# Altium integrated library Altera APEX 20KE.IntLib: 235 symbols (part 19 of 49)
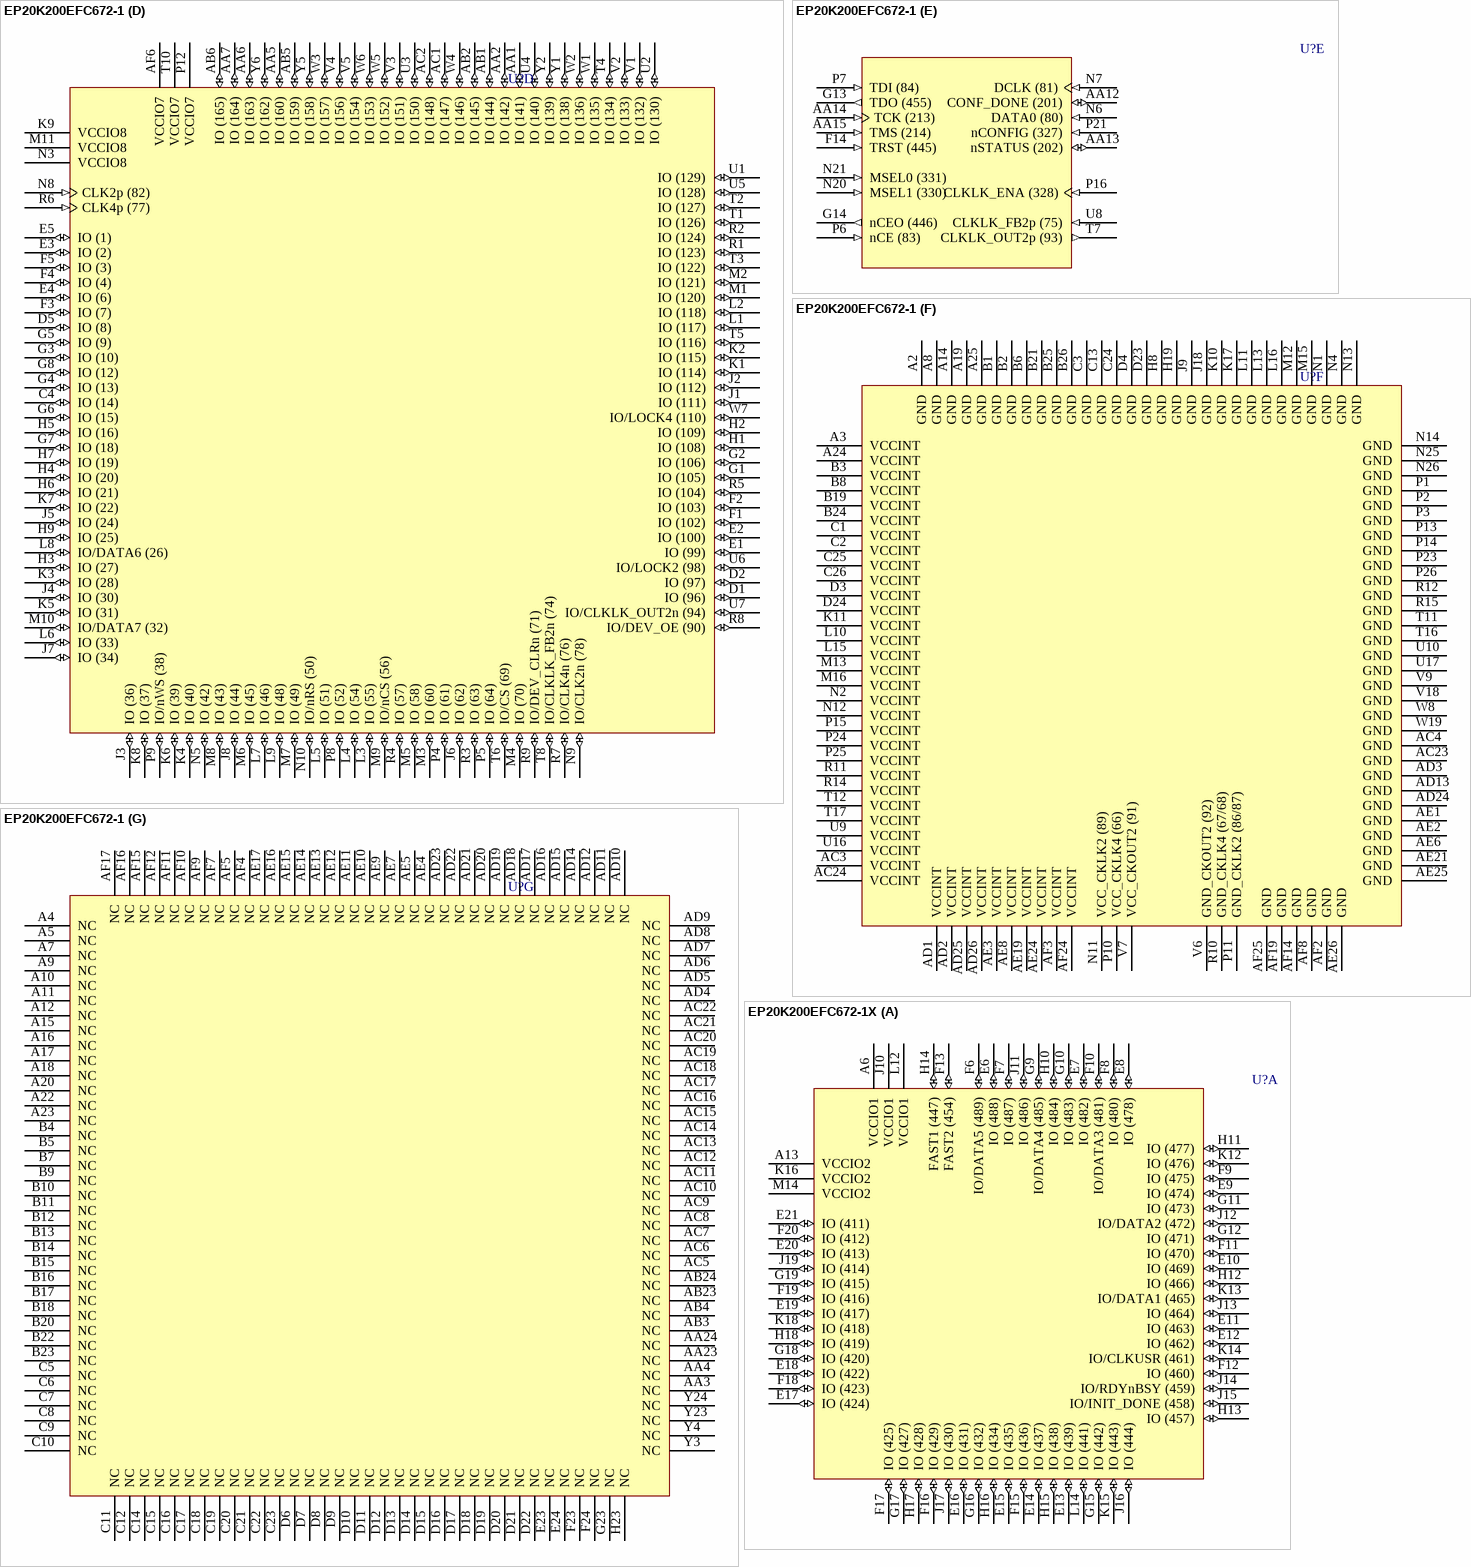
[diagram p417: symbols EP20K200EFC672-1 to EP20K200EFC672-1X]

## EP20K200EFC672-1
designator U?
APEX 20K200E PLD, 672-Pin FBGA, Commercial Grade, Speed Grade 1; Published: 17-Jul-2002; LatestRevisionDate: 13-Apr-2006; LatestRevisionNote: IPC-7351 Footprint Added.; DatasheetVersion: Mar-2004; PackageVersion: ver15.4, Dec-2008; PackageReference: FBGA672; Publisher: Altium Limited; PackageDescription: 672-Ball FineLine Ball Grid Array (FBGA672) - Flip Chip; Supplier 1: Digi-Key; Supplier Part Number 1: EP20K200EFC672-1-ND; Code_JEDEC: MS-034-AAL-1; ComponentLink1Description: Manufacturer Link; ComponentLink1URL: http://www.altera.com/products/devices/apex/apx-index.html; ComponentLink2Description: Datasheet; ComponentLink2URL: http://www.altera.com/literature/ds/apex.pdf
footprint FBGA672 (BGA, 672-Leads, Body 27x27mm, Pitch 1mm)
3D model EP20K200E-FBGA672 (672-Ball FineLine Ball Grid Array (FBGA672) - Flip Chip)
part A pins: A6 VCCIO1 (power), A13 VCCIO2 (power), E6 IO (488) (io), E7 IO (482) (io), E8 IO (478) (io), E9 IO (474) (io), E10 IO (469) (io), E11 IO (463) (io), E12 IO (462) (io), E13 IO (439) (io), E14 IO (437) (io), E15 IO (435) (io), E16 IO (431) (io), E17 IO (424) (io), E18 IO (422) (io), E19 IO (417) (io), E20 IO (413) (io), E21 IO (411) (io), F6 IO/DATA5 (489) (io), F7 IO (487) (io), F8 IO (480) (io), F9 IO (475) (io), F10 IO/DATA3 (481) (io), F11 IO (470) (io), F12 IO (460) (io), F13 FAST2 (454) (io), F15 IO (436) (io), F16 IO (429) (io), F17 IO (425) (io), F18 IO (423) (io), F19 IO (416) (io), F20 IO (412) (io), G9 IO/DATA4 (485) (io), G10 IO (483) (io), G11 IO (473) (io), G12 IO (471) (io), G15 IO (442) (io), G16 IO (432) (io), G17 IO (427) (io), G18 IO (420) (io), G19 IO (415) (io), H10 IO (484) (io), H11 IO (477) (io), H12 IO (466) (io), H13 IO (457) (io), H14 FAST1 (447) (io), H15 IO (438) (io), H16 IO (434) (io), H17 IO (428) (io), H18 IO (419) (io), J10 VCCIO1 (power), J11 IO (486) (io), J12 IO/DATA2 (472) (io), J13 IO (464) (io), J14 IO/RDYnBSY (459) (io), J15 IO/INIT_DONE (458) (io), J16 IO (444) (io), J17 IO (430) (io), J19 IO (414) (io), K12 IO (476) (io), K13 IO/DATA1 (465) (io), K14 IO/CLKUSR (461) (io), K15 IO (443) (io), K16 VCCIO2 (power), K18 IO (418) (io), L12 VCCIO1 (power), L14 IO (441) (io), M14 VCCIO2 (power)
part B pins: A21 VCCIO3 (power), AA21 IO (250) (io), AA22 IO (264) (io), AA25 IO (345) (io), AA26 IO (346) (io), AB21 IO (252) (io), AB22 IO (255) (io), AB25 IO (340) (io), AB26 IO (341) (io), AC25 IO (339) (io), AC26 IO (337) (io), AE18 IO (319) (io), AE20 IO (322) (io), AE22 IO (334) (io), AE23 IO (335) (io), AF18 IO (318) (io), AF20 IO (321) (io), AF22 IO (333) (io), AF23 IO (336) (io), D25 IO (390) (io), D26 IO (391) (io), E22 IO (408) (io), E25 IO (387) (io), E26 IO (388) (io), F21 IO (407) (io), F22 IO (405) (io), F25 IO (384) (io), F26 IO (385) (io), G20 IO (406) (io), G21 IO (402) (io), G22 IO (395) (io), G24 IO (400) (io), G25 IO (381) (io), G26 IO (382) (io), H20 IO (396) (io), H21 IO (401) (io), H22 IO (397) (io), H24 IO (389) (io), H25 IO (378) (io), H26 IO (379) (io), J20 IO (394) (io), J21 IO (403) (io), J22 IO (399) (io), J23 IO (342) (io), J24 IO (353) (io), J25 IO (375) (io), J26 IO (376) (io), K19 IO (393) (io), K20 IO (371) (io), K21 IO (359) (io), K22 IO (377) (io), K23 IO (365) (io), K24 IO (383) (io), K25 IO (372) (io), K26 IO (373) (io), L17 VCCIO3 (power), L18 IO (347) (io), L19 IO (343) (io), L20 IO (295) (io), L21 IO (313) (io), L22 IO (312) (io), L23 IO (315) (io), L24 IO (316) (io), L25 IO (369) (io), L26 IO (370) (io), M17 IO (297) (io), M18 IO (299) (io), M19 CLK3p (324) (in), M20 IO/CLK3n (323) (io), M21 IO (306) (io), M22 IO (309) (io), M23 IO (311) (io), M24 IO (307) (io), M25 IO (366) (io), M26 IO (367) (io), N15 VCCIO3 (power), N16 IO (277) (io), N17 IO (283) (io), N18 IO (291) (io), N19 IO (293) (io), N22 IO (294) (io), N23 IO (317) (io), N24 VCCIO4 (power), P17 IO (271) (io), P18 IO (282) (io), P19 IO/CLK1n (325) (io), P20 CLK1p (329) (in), P22 IO (289) (io), R16 VCCIO4 (power), R17 IO (267) (io), R18 IO (273) (io), R19 IO (280) (io), R20 IO (288) (io), R21 IO (286) (io), R22 IO (310) (io), R23 IO (301) (io), R24 IO (304) (io), R25 IO (363) (io), R26 IO (364) (io), T18 IO (257) (io), T19 IO (269) (io), T20 IO (275) (io), T21 IO (285) (io), T22 IO (298) (io), T23 IO (300) (io), T24 IO (305) (io), T25 IO (360) (io), T26 IO (361) (io), U18 VCCIO4 (power), U19 IO (253) (io), U20 IO (265) (io), U21 IO (270) (io), U22 IO (287) (io), U23 IO (292) (io), U24 IO (303) (io), U25 IO (357) (io), U26 IO (358) (io), V19 IO (256) (io), V20 IO (259) (io), V21 IO (261) (io), V22 IO (279) (io), V23 IO (281) (io), V24 IO (276) (io), V25 IO (354) (io), V26 IO (355) (io), W21 IO (258) (io), W22 IO (263) (io), W23 IO (268) (io), W24 IO (274) (io), W25 IO (351) (io), W26 IO (352) (io), Y21 IO (262) (io), Y22 IO (251) (io), Y25 IO (348) (io), Y26 IO (349) (io)
part C pins: AA8 IO (174) (io), AA9 IO (173) (io), AA10 IO (182) (io), AA11 IO (186) (io), AA16 IO (226) (io), AA17 IO (232) (io), AA18 IO (235) (io), AA19 IO (241) (io), AA20 IO (247) (io), AB7 IO (168) (io), AB8 IO (170) (io), AB9 IO (179) (io), AB10 IO (185) (io), AB11 IO (183) (io), AB12 IO (195) (io), AB13 IO (215) (io), AB14 IO (217) (io), AB15 IO (221) (io), AB16 IO (223) (io), AB17 IO (230) (io), AB18 IO (233) (io), AB19 IO (246) (io), AB20 IO (245) (io), AF13 VCCIO6 (power), AF21 VCCIO5 (power), R13 VCCIO6 (power), T9 IO (172) (io), T13 IO (193) (io), T14 IO (224) (io), T15 VCCIO5 (power), U11 VCCIO6 (power), U12 IO (198) (io), U13 IO (197) (io), U14 IO (219) (io), U15 IO (229) (io), V8 IO (171) (io), V10 VCCIO6 (power), V11 IO (184) (io), V12 IO (190) (io), V13 IO (200) (io), V14 IO (216) (io), V15 IO (220) (io), V16 IO (231) (io), V17 VCCIO5 (power), W9 IO (177) (io), W10 IO (180) (io), W11 IO (188) (io), W12 IO (191) (io), W13 IO (199) (io), W14 IO (194) (io), W15 IO (222) (io), W16 IO (228) (io), W17 IO (238) (io), W18 IO (240) (io), W20 IO (243) (io), Y7 IO (169) (io), Y8 IO (175) (io), Y9 IO (176) (io), Y10 IO (181) (io), Y11 IO (187) (io), Y12 IO (192) (io), Y13 FAST4 (203) (io), Y14 FAST3 (212) (io), Y15 IO (218) (io), Y16 IO (227) (io), Y17 IO (234) (io), Y18 IO (239) (io), Y19 IO (242) (io), Y20 IO (244) (io)
part D pins: AA1 IO (141) (io), AA2 IO (142) (io), AA5 IO (160) (io), AA6 IO (163) (io), AA7 IO (164) (io), AB1 IO (144) (io), AB2 IO (145) (io), AB5 IO (159) (io), AB6 IO (165) (io), AC1 IO (147) (io), AC2 IO (148) (io), AF6 VCCIO7 (power), C4 IO (14) (io), D1 IO (96) (io), D2 IO (97) (io), D5 IO (8) (io), E1 IO (99) (io), E2 IO (100) (io), E3 IO (2) (io), E4 IO (6) (io), E5 IO (1) (io), F1 IO (102) (io), F2 IO (103) (io), F3 IO (7) (io), F4 IO (4) (io), F5 IO (3) (io), G1 IO (105) (io), G2 IO (106) (io), G3 IO (10) (io), G4 IO (13) (io), G5 IO (9) (io), G6 IO (15) (io), G7 IO (18) (io), G8 IO (12) (io), H1 IO (108) (io), H2 IO (109) (io), H3 IO (27) (io), H4 IO (20) (io), H5 IO (16) (io), H6 IO (21) (io), H7 IO (19) (io), H9 IO (25) (io), J1 IO (111) (io), J2 IO (112) (io), J3 IO (36) (io), J4 IO (30) (io), J5 IO (24) (io), J6 IO (62) (io), J7 IO (34) (io), J8 IO (44) (io), K1 IO (114) (io), K2 IO (115) (io), K3 IO (28) (io), K4 IO (40) (io), K5 IO (31) (io), K6 IO (39) (io), K7 IO (22) (io), K8 IO (37) (io), K9 VCCIO8 (power), L1 IO (117) (io), L2 IO (118) (io), L3 IO (55) (io), L4 IO (54) (io), L5 IO (51) (io), L6 IO (33) (io), L7 IO (46) (io), L8 IO/DATA6 (26) (io), L9 IO (48) (io), M1 IO (120) (io), M2 IO (121) (io), M3 IO (60) (io), M4 IO (70) (io), M5 IO (58) (io), M6 IO (45) (io), M7 IO (49) (io), M8 IO (43) (io), M9 IO/nCS (56) (io), M10 IO/DATA7 (32) (io), M11 VCCIO8 (power), N3 VCCIO8 (power), N5 IO (42) (io), N8 CLK2p (82) (in), N9 IO/CLK2n (78) (io), N10 IO/nRS (50) (io), P4 IO (61) (io), P5 IO (64) (io), P8 IO (52) (io), P9 IO/nWS (38) (io), P12 VCCIO7 (power), R1 IO (123) (io), R2 IO (124) (io), R3 IO (63) (io), R4 IO (57) (io), R5 IO (104) (io), R6 CLK4p (77) (in), R7 IO/CLK4n (76) (io), R8 IO/DEV_OE (90) (io), R9 IO/DEV_CLRn (71) (io), T1 IO (126) (io), T2 IO (127) (io), T3 IO (122) (io), T4 IO (134) (io), T5 IO (116) (io), T6 IO/CS (69) (io), T8 IO/CLKLK_FB2n (74) (io), T10 VCCIO7 (power), U1 IO (129) (io), U2 IO (130) (io), U3 IO (150) (io), U4 IO (140) (io), U5 IO (128) (io), U6 IO/LOCK2 (98) (io), U7 IO/CLKLK_OUT2n (94) (io), V1 IO (132) (io), V2 IO (133) (io), V3 IO (151) (io), V4 IO (156) (io), V5 IO (154) (io), W1 IO (135) (io), W2 IO (136) (io), W3 IO (157) (io), W4 IO (146) (io), W5 IO (152) (io), W6 IO (153) (io), W7 IO/LOCK4 (110) (io), Y1 IO (138) (io), Y2 IO (139) (io), Y5 IO (158) (io), Y6 IO (162) (io)
part E pins: AA12 CONF_DONE (201) (io), AA13 nSTATUS (202) (io), AA14 TCK (213) (in), AA15 TMS (214) (in), F14 TRST (445) (in), G13 TDO (455) (out), G14 nCEO (446) (out), N6 DATA0 (80) (in), N7 DCLK (81) (in), N20 MSEL1 (330) (in), N21 MSEL0 (331) (in), P6 nCE (83) (in), P7 TDI (84) (in), P16 CLKLK_ENA (328) (in), P21 nCONFIG (327) (in), T7 CLKLK_OUT2p (93) (out), U8 CLKLK_FB2p (75) (in)
part F pins: A2 GND (power), A3 VCCINT (power), A8 GND (power), A14 GND (power), A19 GND (power), A24 VCCINT (power), A25 GND (power), AC3 VCCINT (power), AC4 GND (power), AC23 GND (power), AC24 VCCINT (power), AD1 VCCINT (power), AD2 VCCINT (power), AD3 GND (power), AD13 GND (power), AD24 GND (power), AD25 VCCINT (power), AD26 VCCINT (power), AE1 GND (power), AE2 GND (power), AE3 VCCINT (power), AE6 GND (power), AE8 VCCINT (power), AE19 VCCINT (power), AE21 GND (power), AE24 VCCINT (power), AE25 GND (power), AE26 GND (power), AF2 GND (power), AF3 VCCINT (power), AF8 GND (power), AF14 GND (power), AF19 GND (power), AF24 VCCINT (power), AF25 GND (power), B1 GND (power), B2 GND (power), B3 VCCINT (power), B6 GND (power), B8 VCCINT (power), B19 VCCINT (power), B21 GND (power), B24 VCCINT (power), B25 GND (power), B26 GND (power), C1 VCCINT (power), C2 VCCINT (power), C3 GND (power), C13 GND (power), C24 GND (power), C25 VCCINT (power), C26 VCCINT (power), D3 VCCINT (power), D4 GND (power), D23 GND (power), D24 VCCINT (power), H8 GND (power), H19 GND (power), J9 GND (power), J18 GND (power), K10 GND (power), K11 VCCINT (power), K17 GND (power), L10 VCCINT (power), L11 GND (power), L13 GND (power), L15 VCCINT (power), L16 GND (power), M12 GND (power), M13 VCCINT (power), M15 GND (power), M16 VCCINT (power), N1 GND (power), N2 VCCINT (power), N4 GND (power), N11 VCC_CKLK2 (89) (power), N12 VCCINT (power), N13 GND (power), N14 GND (power), N25 GND (power), N26 GND (power), P1 GND (power), P2 GND (power), P3 GND (power), P10 VCC_CKLK4 (66) (power), P11 GND_CKLK2 (86/87) (power), P13 GND (power), P14 GND (power), P15 VCCINT (power), P23 GND (power), P24 VCCINT (power), P25 VCCINT (power), P26 GND (power), R10 GND_CKLK4 (67/68) (power), R11 VCCINT (power), R12 GND (power), R14 VCCINT (power), R15 GND (power), T11 GND (power), T12 VCCINT (power), T16 GND (power), T17 VCCINT (power), U9 VCCINT (power), U10 GND (power), U16 VCCINT (power), U17 GND (power), V6 GND_CKOUT2 (92) (power), V7 VCC_CKOUT2 (91) (power), V9 GND (power), V18 GND (power), W8 GND (power), W19 GND (power)
part G pins: A4 NC, A5 NC, A7 NC, A9 NC, A10 NC, A11 NC, A12 NC, A15 NC, A16 NC, A17 NC, A18 NC, A20 NC, A22 NC, A23 NC, AA3 NC, AA4 NC, AA23 NC, AA24 NC, AB3 NC, AB4 NC, AB23 NC, AB24 NC, AC5 NC, AC6 NC, AC7 NC, AC8 NC, AC9 NC, AC10 NC, AC11 NC, AC12 NC, AC13 NC, AC14 NC, AC15 NC, AC16 NC, AC17 NC, AC18 NC, AC19 NC, AC20 NC, AC21 NC, AC22 NC, AD4 NC, AD5 NC, AD6 NC, AD7 NC, AD8 NC, AD9 NC, AD10 NC, AD11 NC, AD12 NC, AD14 NC, AD15 NC, AD16 NC, AD17 NC, AD18 NC, AD19 NC, AD20 NC, AD21 NC, AD22 NC, AD23 NC, AE4 NC, AE5 NC, AE7 NC, AE9 NC, AE10 NC, AE11 NC, AE12 NC, AE13 NC, AE14 NC, AE15 NC, AE16 NC, AE17 NC, AF4 NC, AF5 NC, AF7 NC, AF9 NC, AF10 NC, AF11 NC, AF12 NC, AF15 NC, AF16 NC, AF17 NC, B4 NC, B5 NC, B7 NC, B9 NC, B10 NC, B11 NC, B12 NC, B13 NC, B14 NC, B15 NC, B16 NC, B17 NC, B18 NC, B20 NC, B22 NC, B23 NC, C5 NC, C6 NC, C7 NC, C8 NC, C9 NC, C10 NC, C11 NC, C12 NC, C14 NC, C15 NC, C16 NC, C17 NC, C18 NC, C19 NC, C20 NC, C21 NC, C22 NC, C23 NC, D6 NC, D7 NC, D8 NC, D9 NC, D10 NC, D11 NC, D12 NC, D13 NC, D14 NC, D15 NC, D16 NC, D17 NC, D18 NC, D19 NC, D20 NC, D21 NC, D22 NC, E23 NC, E24 NC, F23 NC, F24 NC, G23 NC, H23 NC, Y3 NC, Y4 NC, Y23 NC, Y24 NC

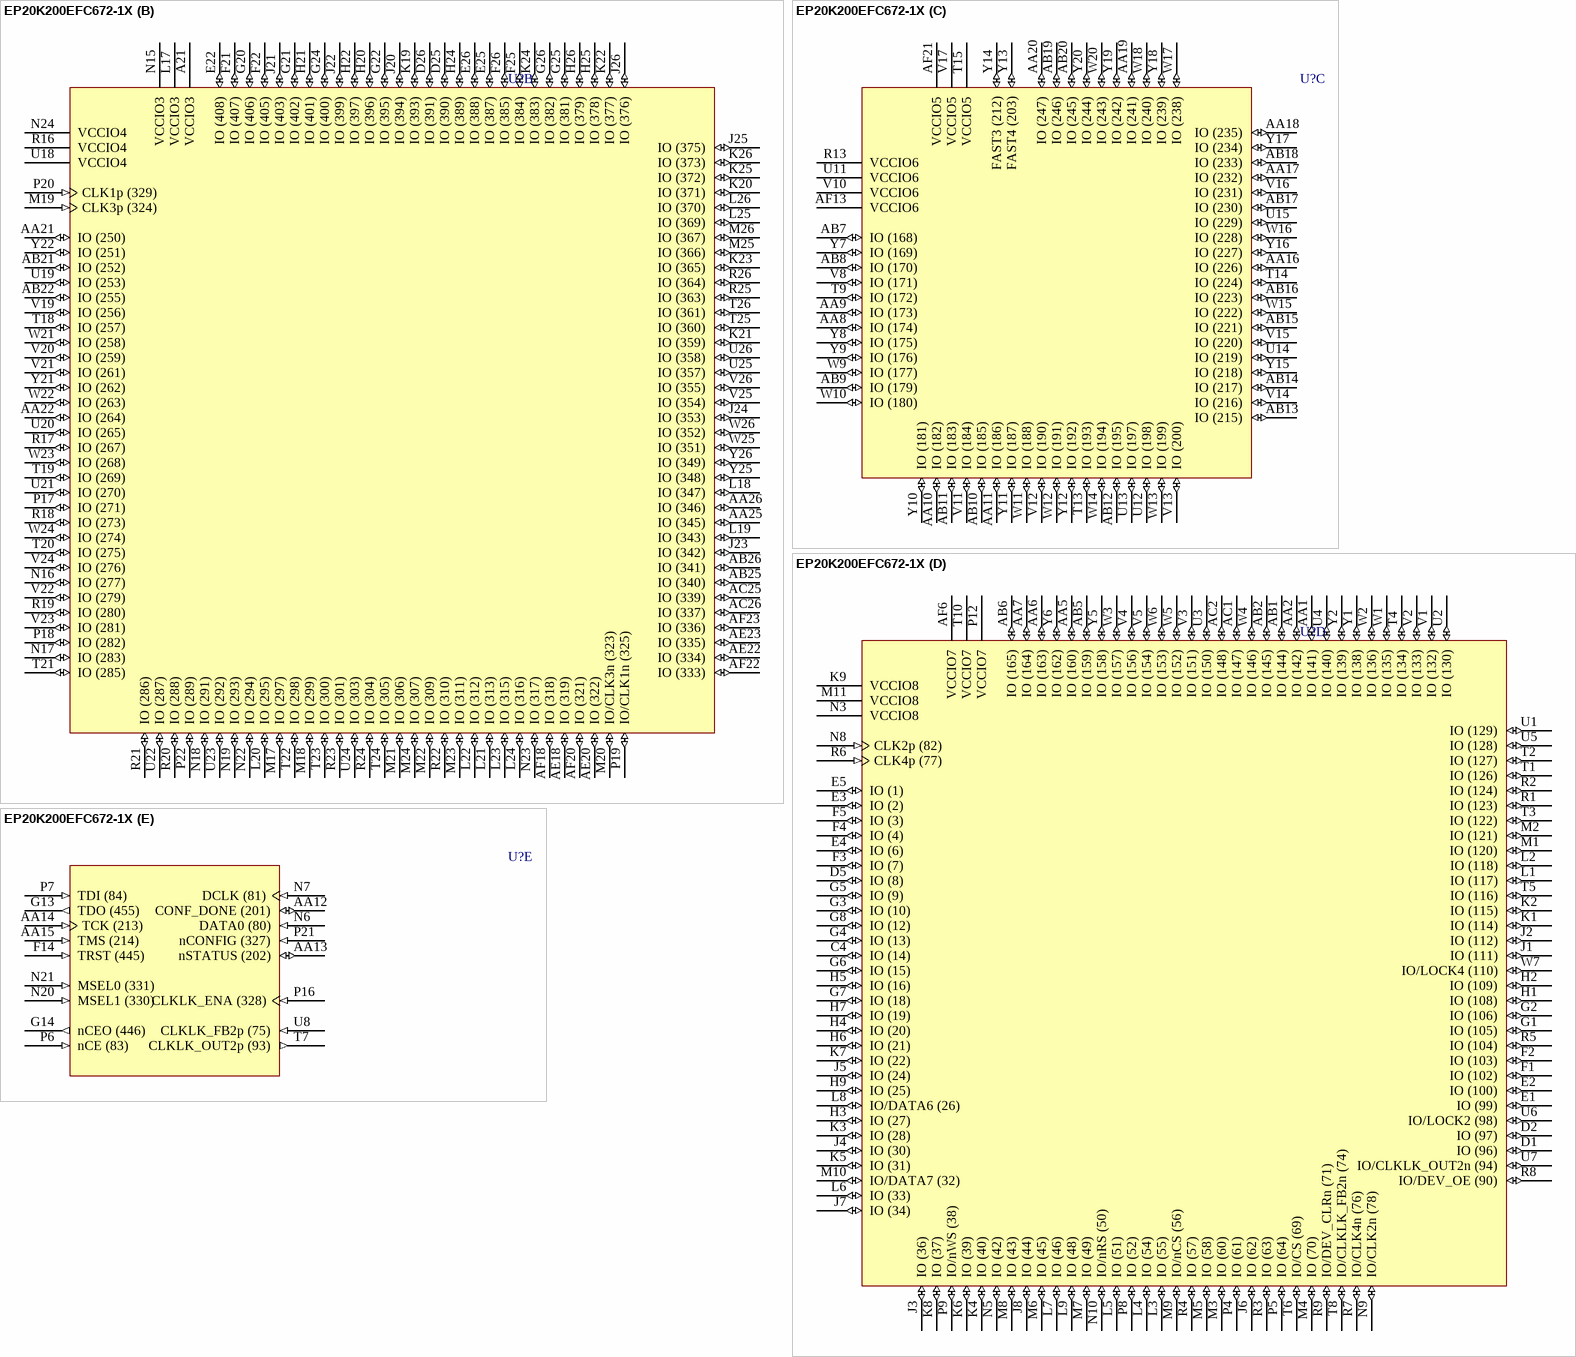
[diagram p193: symbol EP20K200EFC672-1X]

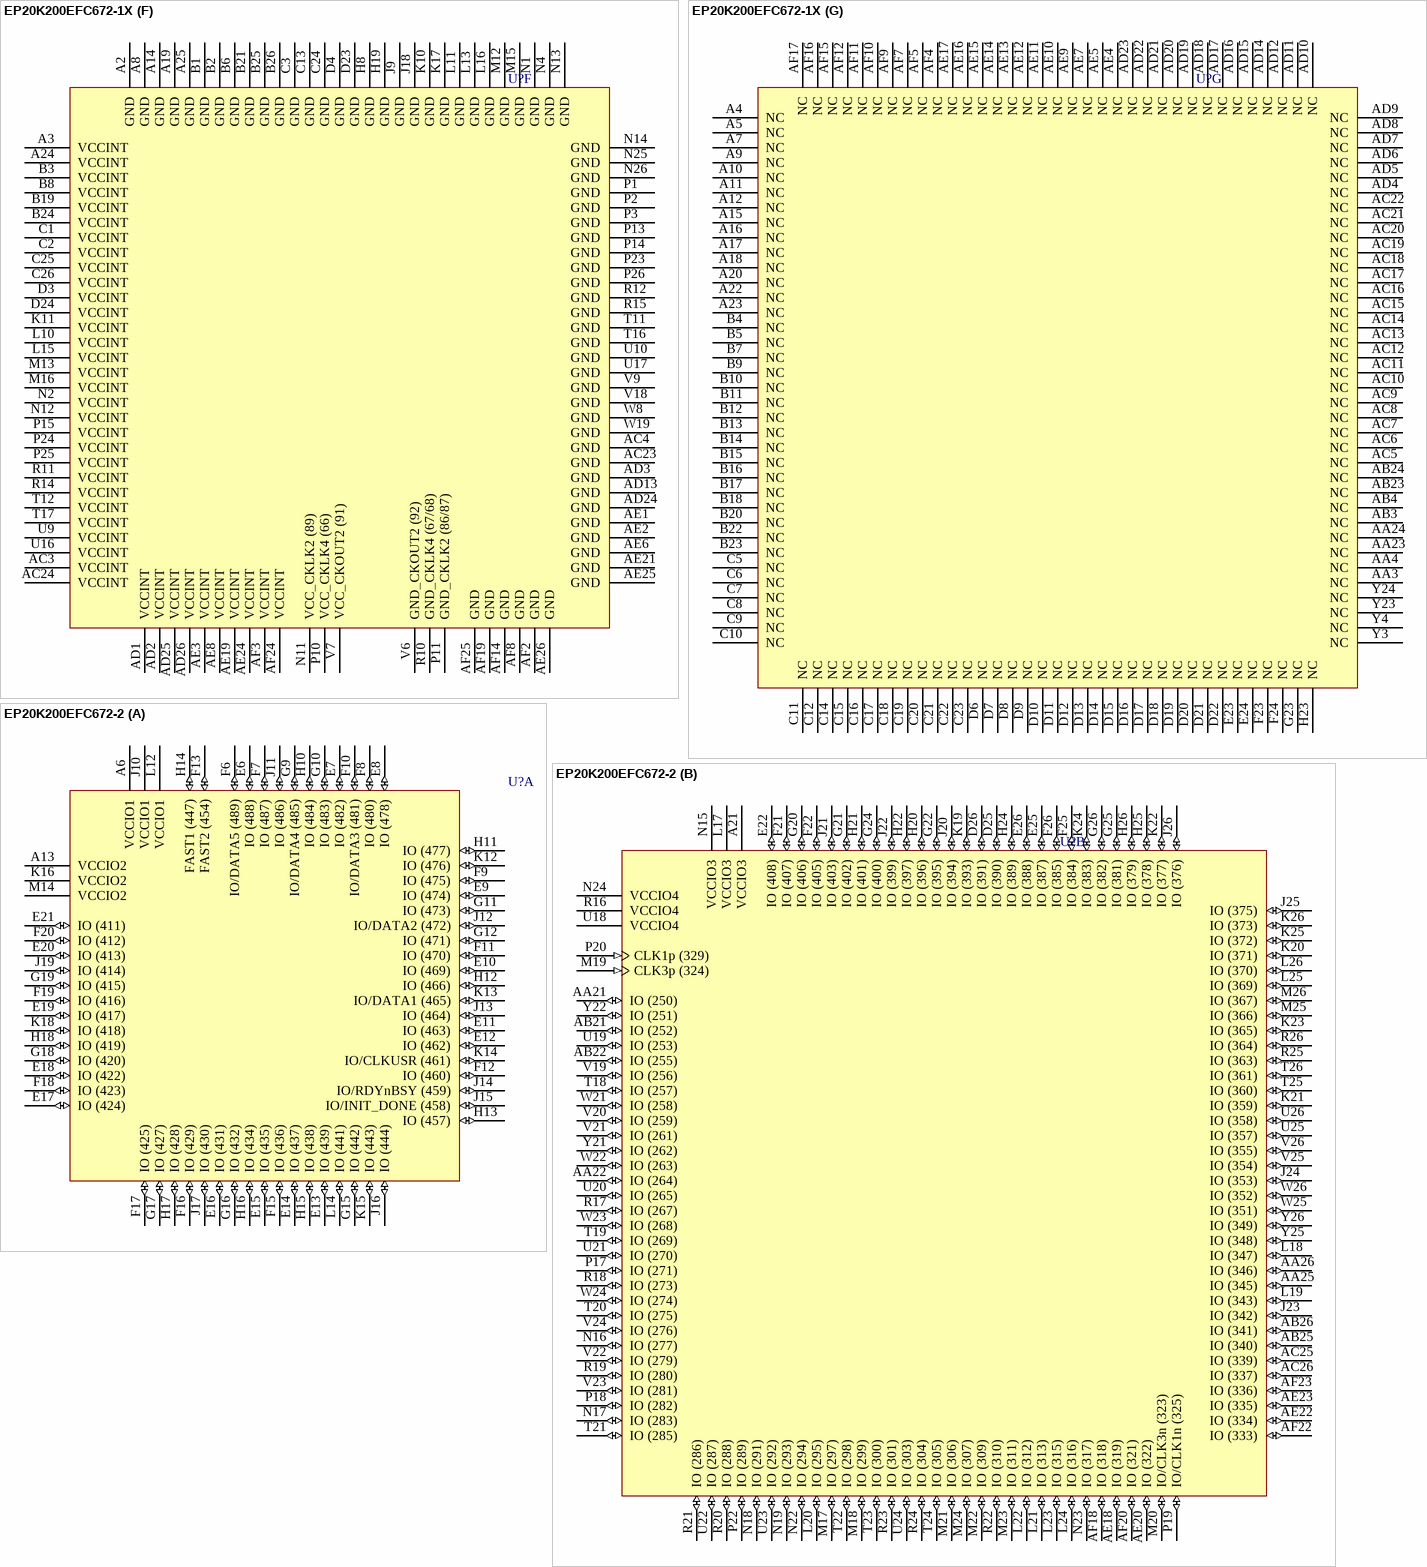
[diagram p194: symbols EP20K200EFC672-1X to EP20K200EFC672-2]

## EP20K200EFC672-1X
designator U?
APEX 20K200E PLD with PLLs and LVDS, 672-Pin FBGA, Commercial Grade, Speed Grade 1; Published: 17-Jul-2002; LatestRevisionDate: 13-Apr-2006; LatestRevisionNote: IPC-7351 Footprint Added.; DatasheetVersion: Mar-2004; PackageVersion: ver15.4, Dec-2008; PackageReference: FBGA672; Publisher: Altium Limited; PackageDescription: 672-Ball FineLine Ball Grid Array (FBGA672) - Flip Chip; Code_JEDEC: MS-034-AAL-1; ComponentLink1Description: Manufacturer Link; ComponentLink1URL: http://www.altera.com/products/devices/apex/apx-index.html; ComponentLink2Description: Datasheet; ComponentLink2URL: http://www.altera.com/literature/ds/apex.pdf
footprint FBGA672 (BGA, 672-Leads, Body 27x27mm, Pitch 1mm)
3D model EP20K200E-FBGA672 (672-Ball FineLine Ball Grid Array (FBGA672) - Flip Chip)
part A pins: A6 VCCIO1 (power), A13 VCCIO2 (power), E6 IO (488) (io), E7 IO (482) (io), E8 IO (478) (io), E9 IO (474) (io), E10 IO (469) (io), E11 IO (463) (io), E12 IO (462) (io), E13 IO (439) (io), E14 IO (437) (io), E15 IO (435) (io), E16 IO (431) (io), E17 IO (424) (io), E18 IO (422) (io), E19 IO (417) (io), E20 IO (413) (io), E21 IO (411) (io), F6 IO/DATA5 (489) (io), F7 IO (487) (io), F8 IO (480) (io), F9 IO (475) (io), F10 IO/DATA3 (481) (io), F11 IO (470) (io), F12 IO (460) (io), F13 FAST2 (454) (io), F15 IO (436) (io), F16 IO (429) (io), F17 IO (425) (io), F18 IO (423) (io), F19 IO (416) (io), F20 IO (412) (io), G9 IO/DATA4 (485) (io), G10 IO (483) (io), G11 IO (473) (io), G12 IO (471) (io), G15 IO (442) (io), G16 IO (432) (io), G17 IO (427) (io), G18 IO (420) (io), G19 IO (415) (io), H10 IO (484) (io), H11 IO (477) (io), H12 IO (466) (io), H13 IO (457) (io), H14 FAST1 (447) (io), H15 IO (438) (io), H16 IO (434) (io), H17 IO (428) (io), H18 IO (419) (io), J10 VCCIO1 (power), J11 IO (486) (io), J12 IO/DATA2 (472) (io), J13 IO (464) (io), J14 IO/RDYnBSY (459) (io), J15 IO/INIT_DONE (458) (io), J16 IO (444) (io), J17 IO (430) (io), J19 IO (414) (io), K12 IO (476) (io), K13 IO/DATA1 (465) (io), K14 IO/CLKUSR (461) (io), K15 IO (443) (io), K16 VCCIO2 (power), K18 IO (418) (io), L12 VCCIO1 (power), L14 IO (441) (io), M14 VCCIO2 (power)
part B pins: A21 VCCIO3 (power), AA21 IO (250) (io), AA22 IO (264) (io), AA25 IO (345) (io), AA26 IO (346) (io), AB21 IO (252) (io), AB22 IO (255) (io), AB25 IO (340) (io), AB26 IO (341) (io), AC25 IO (339) (io), AC26 IO (337) (io), AE18 IO (319) (io), AE20 IO (322) (io), AE22 IO (334) (io), AE23 IO (335) (io), AF18 IO (318) (io), AF20 IO (321) (io), AF22 IO (333) (io), AF23 IO (336) (io), D25 IO (390) (io), D26 IO (391) (io), E22 IO (408) (io), E25 IO (387) (io), E26 IO (388) (io), F21 IO (407) (io), F22 IO (405) (io), F25 IO (384) (io), F26 IO (385) (io), G20 IO (406) (io), G21 IO (402) (io), G22 IO (395) (io), G24 IO (400) (io), G25 IO (381) (io), G26 IO (382) (io), H20 IO (396) (io), H21 IO (401) (io), H22 IO (397) (io), H24 IO (389) (io), H25 IO (378) (io), H26 IO (379) (io), J20 IO (394) (io), J21 IO (403) (io), J22 IO (399) (io), J23 IO (342) (io), J24 IO (353) (io), J25 IO (375) (io), J26 IO (376) (io), K19 IO (393) (io), K20 IO (371) (io), K21 IO (359) (io), K22 IO (377) (io), K23 IO (365) (io), K24 IO (383) (io), K25 IO (372) (io), K26 IO (373) (io), L17 VCCIO3 (power), L18 IO (347) (io), L19 IO (343) (io), L20 IO (295) (io), L21 IO (313) (io), L22 IO (312) (io), L23 IO (315) (io), L24 IO (316) (io), L25 IO (369) (io), L26 IO (370) (io), M17 IO (297) (io), M18 IO (299) (io), M19 CLK3p (324) (in), M20 IO/CLK3n (323) (io), M21 IO (306) (io), M22 IO (309) (io), M23 IO (311) (io), M24 IO (307) (io), M25 IO (366) (io), M26 IO (367) (io), N15 VCCIO3 (power), N16 IO (277) (io), N17 IO (283) (io), N18 IO (291) (io), N19 IO (293) (io), N22 IO (294) (io), N23 IO (317) (io), N24 VCCIO4 (power), P17 IO (271) (io), P18 IO (282) (io), P19 IO/CLK1n (325) (io), P20 CLK1p (329) (in), P22 IO (289) (io), R16 VCCIO4 (power), R17 IO (267) (io), R18 IO (273) (io), R19 IO (280) (io), R20 IO (288) (io), R21 IO (286) (io), R22 IO (310) (io), R23 IO (301) (io), R24 IO (304) (io), R25 IO (363) (io), R26 IO (364) (io), T18 IO (257) (io), T19 IO (269) (io), T20 IO (275) (io), T21 IO (285) (io), T22 IO (298) (io), T23 IO (300) (io), T24 IO (305) (io), T25 IO (360) (io), T26 IO (361) (io), U18 VCCIO4 (power), U19 IO (253) (io), U20 IO (265) (io), U21 IO (270) (io), U22 IO (287) (io), U23 IO (292) (io), U24 IO (303) (io), U25 IO (357) (io), U26 IO (358) (io), V19 IO (256) (io), V20 IO (259) (io), V21 IO (261) (io), V22 IO (279) (io), V23 IO (281) (io), V24 IO (276) (io), V25 IO (354) (io), V26 IO (355) (io), W21 IO (258) (io), W22 IO (263) (io), W23 IO (268) (io), W24 IO (274) (io), W25 IO (351) (io), W26 IO (352) (io), Y21 IO (262) (io), Y22 IO (251) (io), Y25 IO (348) (io), Y26 IO (349) (io)
part C pins: AA8 IO (174) (io), AA9 IO (173) (io), AA10 IO (182) (io), AA11 IO (186) (io), AA16 IO (226) (io), AA17 IO (232) (io), AA18 IO (235) (io), AA19 IO (241) (io), AA20 IO (247) (io), AB7 IO (168) (io), AB8 IO (170) (io), AB9 IO (179) (io), AB10 IO (185) (io), AB11 IO (183) (io), AB12 IO (195) (io), AB13 IO (215) (io), AB14 IO (217) (io), AB15 IO (221) (io), AB16 IO (223) (io), AB17 IO (230) (io), AB18 IO (233) (io), AB19 IO (246) (io), AB20 IO (245) (io), AF13 VCCIO6 (power), AF21 VCCIO5 (power), R13 VCCIO6 (power), T9 IO (172) (io), T13 IO (193) (io), T14 IO (224) (io), T15 VCCIO5 (power), U11 VCCIO6 (power), U12 IO (198) (io), U13 IO (197) (io), U14 IO (219) (io), U15 IO (229) (io), V8 IO (171) (io), V10 VCCIO6 (power), V11 IO (184) (io), V12 IO (190) (io), V13 IO (200) (io), V14 IO (216) (io), V15 IO (220) (io), V16 IO (231) (io), V17 VCCIO5 (power), W9 IO (177) (io), W10 IO (180) (io), W11 IO (188) (io), W12 IO (191) (io), W13 IO (199) (io), W14 IO (194) (io), W15 IO (222) (io), W16 IO (228) (io), W17 IO (238) (io), W18 IO (240) (io), W20 IO (243) (io), Y7 IO (169) (io), Y8 IO (175) (io), Y9 IO (176) (io), Y10 IO (181) (io), Y11 IO (187) (io), Y12 IO (192) (io), Y13 FAST4 (203) (io), Y14 FAST3 (212) (io), Y15 IO (218) (io), Y16 IO (227) (io), Y17 IO (234) (io), Y18 IO (239) (io), Y19 IO (242) (io), Y20 IO (244) (io)
part D pins: AA1 IO (141) (io), AA2 IO (142) (io), AA5 IO (160) (io), AA6 IO (163) (io), AA7 IO (164) (io), AB1 IO (144) (io), AB2 IO (145) (io), AB5 IO (159) (io), AB6 IO (165) (io), AC1 IO (147) (io), AC2 IO (148) (io), AF6 VCCIO7 (power), C4 IO (14) (io), D1 IO (96) (io), D2 IO (97) (io), D5 IO (8) (io), E1 IO (99) (io), E2 IO (100) (io), E3 IO (2) (io), E4 IO (6) (io), E5 IO (1) (io), F1 IO (102) (io), F2 IO (103) (io), F3 IO (7) (io), F4 IO (4) (io), F5 IO (3) (io), G1 IO (105) (io), G2 IO (106) (io), G3 IO (10) (io), G4 IO (13) (io), G5 IO (9) (io), G6 IO (15) (io), G7 IO (18) (io), G8 IO (12) (io), H1 IO (108) (io), H2 IO (109) (io), H3 IO (27) (io), H4 IO (20) (io), H5 IO (16) (io), H6 IO (21) (io), H7 IO (19) (io), H9 IO (25) (io), J1 IO (111) (io), J2 IO (112) (io), J3 IO (36) (io), J4 IO (30) (io), J5 IO (24) (io), J6 IO (62) (io), J7 IO (34) (io), J8 IO (44) (io), K1 IO (114) (io), K2 IO (115) (io), K3 IO (28) (io), K4 IO (40) (io), K5 IO (31) (io), K6 IO (39) (io), K7 IO (22) (io), K8 IO (37) (io), K9 VCCIO8 (power), L1 IO (117) (io), L2 IO (118) (io), L3 IO (55) (io), L4 IO (54) (io), L5 IO (51) (io), L6 IO (33) (io), L7 IO (46) (io), L8 IO/DATA6 (26) (io), L9 IO (48) (io), M1 IO (120) (io), M2 IO (121) (io), M3 IO (60) (io), M4 IO (70) (io), M5 IO (58) (io), M6 IO (45) (io), M7 IO (49) (io), M8 IO (43) (io), M9 IO/nCS (56) (io), M10 IO/DATA7 (32) (io), M11 VCCIO8 (power), N3 VCCIO8 (power), N5 IO (42) (io), N8 CLK2p (82) (in), N9 IO/CLK2n (78) (io), N10 IO/nRS (50) (io), P4 IO (61) (io), P5 IO (64) (io), P8 IO (52) (io), P9 IO/nWS (38) (io), P12 VCCIO7 (power), R1 IO (123) (io), R2 IO (124) (io), R3 IO (63) (io), R4 IO (57) (io), R5 IO (104) (io), R6 CLK4p (77) (in), R7 IO/CLK4n (76) (io), R8 IO/DEV_OE (90) (io), R9 IO/DEV_CLRn (71) (io), T1 IO (126) (io), T2 IO (127) (io), T3 IO (122) (io), T4 IO (134) (io), T5 IO (116) (io), T6 IO/CS (69) (io), T8 IO/CLKLK_FB2n (74) (io), T10 VCCIO7 (power), U1 IO (129) (io), U2 IO (130) (io), U3 IO (150) (io), U4 IO (140) (io), U5 IO (128) (io), U6 IO/LOCK2 (98) (io), U7 IO/CLKLK_OUT2n (94) (io), V1 IO (132) (io), V2 IO (133) (io), V3 IO (151) (io), V4 IO (156) (io), V5 IO (154) (io), W1 IO (135) (io), W2 IO (136) (io), W3 IO (157) (io), W4 IO (146) (io), W5 IO (152) (io), W6 IO (153) (io), W7 IO/LOCK4 (110) (io), Y1 IO (138) (io), Y2 IO (139) (io), Y5 IO (158) (io), Y6 IO (162) (io)
part E pins: AA12 CONF_DONE (201) (io), AA13 nSTATUS (202) (io), AA14 TCK (213) (in), AA15 TMS (214) (in), F14 TRST (445) (in), G13 TDO (455) (out), G14 nCEO (446) (out), N6 DATA0 (80) (in), N7 DCLK (81) (in), N20 MSEL1 (330) (in), N21 MSEL0 (331) (in), P6 nCE (83) (in), P7 TDI (84) (in), P16 CLKLK_ENA (328) (in), P21 nCONFIG (327) (in), T7 CLKLK_OUT2p (93) (out), U8 CLKLK_FB2p (75) (in)
part F pins: A2 GND (power), A3 VCCINT (power), A8 GND (power), A14 GND (power), A19 GND (power), A24 VCCINT (power), A25 GND (power), AC3 VCCINT (power), AC4 GND (power), AC23 GND (power), AC24 VCCINT (power), AD1 VCCINT (power), AD2 VCCINT (power), AD3 GND (power), AD13 GND (power), AD24 GND (power), AD25 VCCINT (power), AD26 VCCINT (power), AE1 GND (power), AE2 GND (power), AE3 VCCINT (power), AE6 GND (power), AE8 VCCINT (power), AE19 VCCINT (power), AE21 GND (power), AE24 VCCINT (power), AE25 GND (power), AE26 GND (power), AF2 GND (power), AF3 VCCINT (power), AF8 GND (power), AF14 GND (power), AF19 GND (power), AF24 VCCINT (power), AF25 GND (power), B1 GND (power), B2 GND (power), B3 VCCINT (power), B6 GND (power), B8 VCCINT (power), B19 VCCINT (power), B21 GND (power), B24 VCCINT (power), B25 GND (power), B26 GND (power), C1 VCCINT (power), C2 VCCINT (power), C3 GND (power), C13 GND (power), C24 GND (power), C25 VCCINT (power), C26 VCCINT (power), D3 VCCINT (power), D4 GND (power), D23 GND (power), D24 VCCINT (power), H8 GND (power), H19 GND (power), J9 GND (power), J18 GND (power), K10 GND (power), K11 VCCINT (power), K17 GND (power), L10 VCCINT (power), L11 GND (power), L13 GND (power), L15 VCCINT (power), L16 GND (power), M12 GND (power), M13 VCCINT (power), M15 GND (power), M16 VCCINT (power), N1 GND (power), N2 VCCINT (power), N4 GND (power), N11 VCC_CKLK2 (89) (power), N12 VCCINT (power), N13 GND (power), N14 GND (power), N25 GND (power), N26 GND (power), P1 GND (power), P2 GND (power), P3 GND (power), P10 VCC_CKLK4 (66) (power), P11 GND_CKLK2 (86/87) (power), P13 GND (power), P14 GND (power), P15 VCCINT (power), P23 GND (power), P24 VCCINT (power), P25 VCCINT (power), P26 GND (power), R10 GND_CKLK4 (67/68) (power), R11 VCCINT (power), R12 GND (power), R14 VCCINT (power), R15 GND (power), T11 GND (power), T12 VCCINT (power), T16 GND (power), T17 VCCINT (power), U9 VCCINT (power), U10 GND (power), U16 VCCINT (power), U17 GND (power), V6 GND_CKOUT2 (92) (power), V7 VCC_CKOUT2 (91) (power), V9 GND (power), V18 GND (power), W8 GND (power), W19 GND (power)
part G pins: A4 NC, A5 NC, A7 NC, A9 NC, A10 NC, A11 NC, A12 NC, A15 NC, A16 NC, A17 NC, A18 NC, A20 NC, A22 NC, A23 NC, AA3 NC, AA4 NC, AA23 NC, AA24 NC, AB3 NC, AB4 NC, AB23 NC, AB24 NC, AC5 NC, AC6 NC, AC7 NC, AC8 NC, AC9 NC, AC10 NC, AC11 NC, AC12 NC, AC13 NC, AC14 NC, AC15 NC, AC16 NC, AC17 NC, AC18 NC, AC19 NC, AC20 NC, AC21 NC, AC22 NC, AD4 NC, AD5 NC, AD6 NC, AD7 NC, AD8 NC, AD9 NC, AD10 NC, AD11 NC, AD12 NC, AD14 NC, AD15 NC, AD16 NC, AD17 NC, AD18 NC, AD19 NC, AD20 NC, AD21 NC, AD22 NC, AD23 NC, AE4 NC, AE5 NC, AE7 NC, AE9 NC, AE10 NC, AE11 NC, AE12 NC, AE13 NC, AE14 NC, AE15 NC, AE16 NC, AE17 NC, AF4 NC, AF5 NC, AF7 NC, AF9 NC, AF10 NC, AF11 NC, AF12 NC, AF15 NC, AF16 NC, AF17 NC, B4 NC, B5 NC, B7 NC, B9 NC, B10 NC, B11 NC, B12 NC, B13 NC, B14 NC, B15 NC, B16 NC, B17 NC, B18 NC, B20 NC, B22 NC, B23 NC, C5 NC, C6 NC, C7 NC, C8 NC, C9 NC, C10 NC, C11 NC, C12 NC, C14 NC, C15 NC, C16 NC, C17 NC, C18 NC, C19 NC, C20 NC, C21 NC, C22 NC, C23 NC, D6 NC, D7 NC, D8 NC, D9 NC, D10 NC, D11 NC, D12 NC, D13 NC, D14 NC, D15 NC, D16 NC, D17 NC, D18 NC, D19 NC, D20 NC, D21 NC, D22 NC, E23 NC, E24 NC, F23 NC, F24 NC, G23 NC, H23 NC, Y3 NC, Y4 NC, Y23 NC, Y24 NC

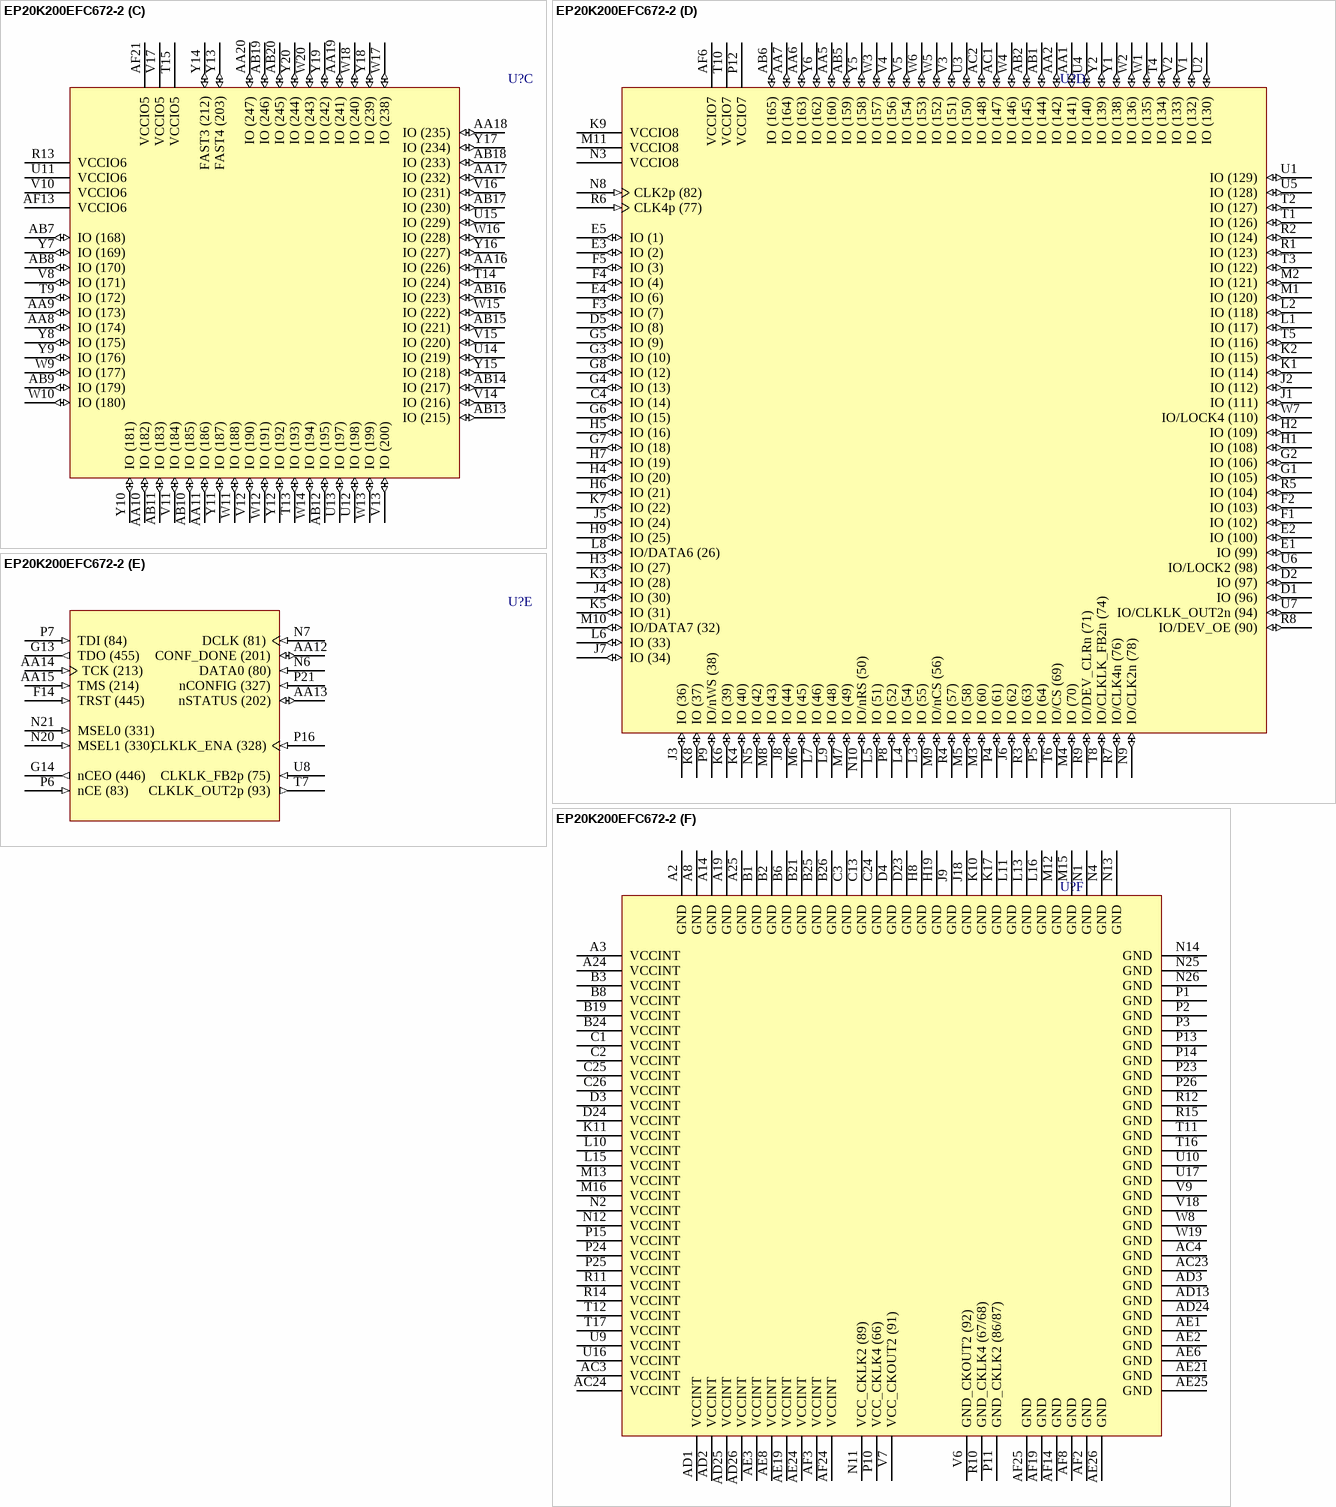
[diagram p195: symbol EP20K200EFC672-2]

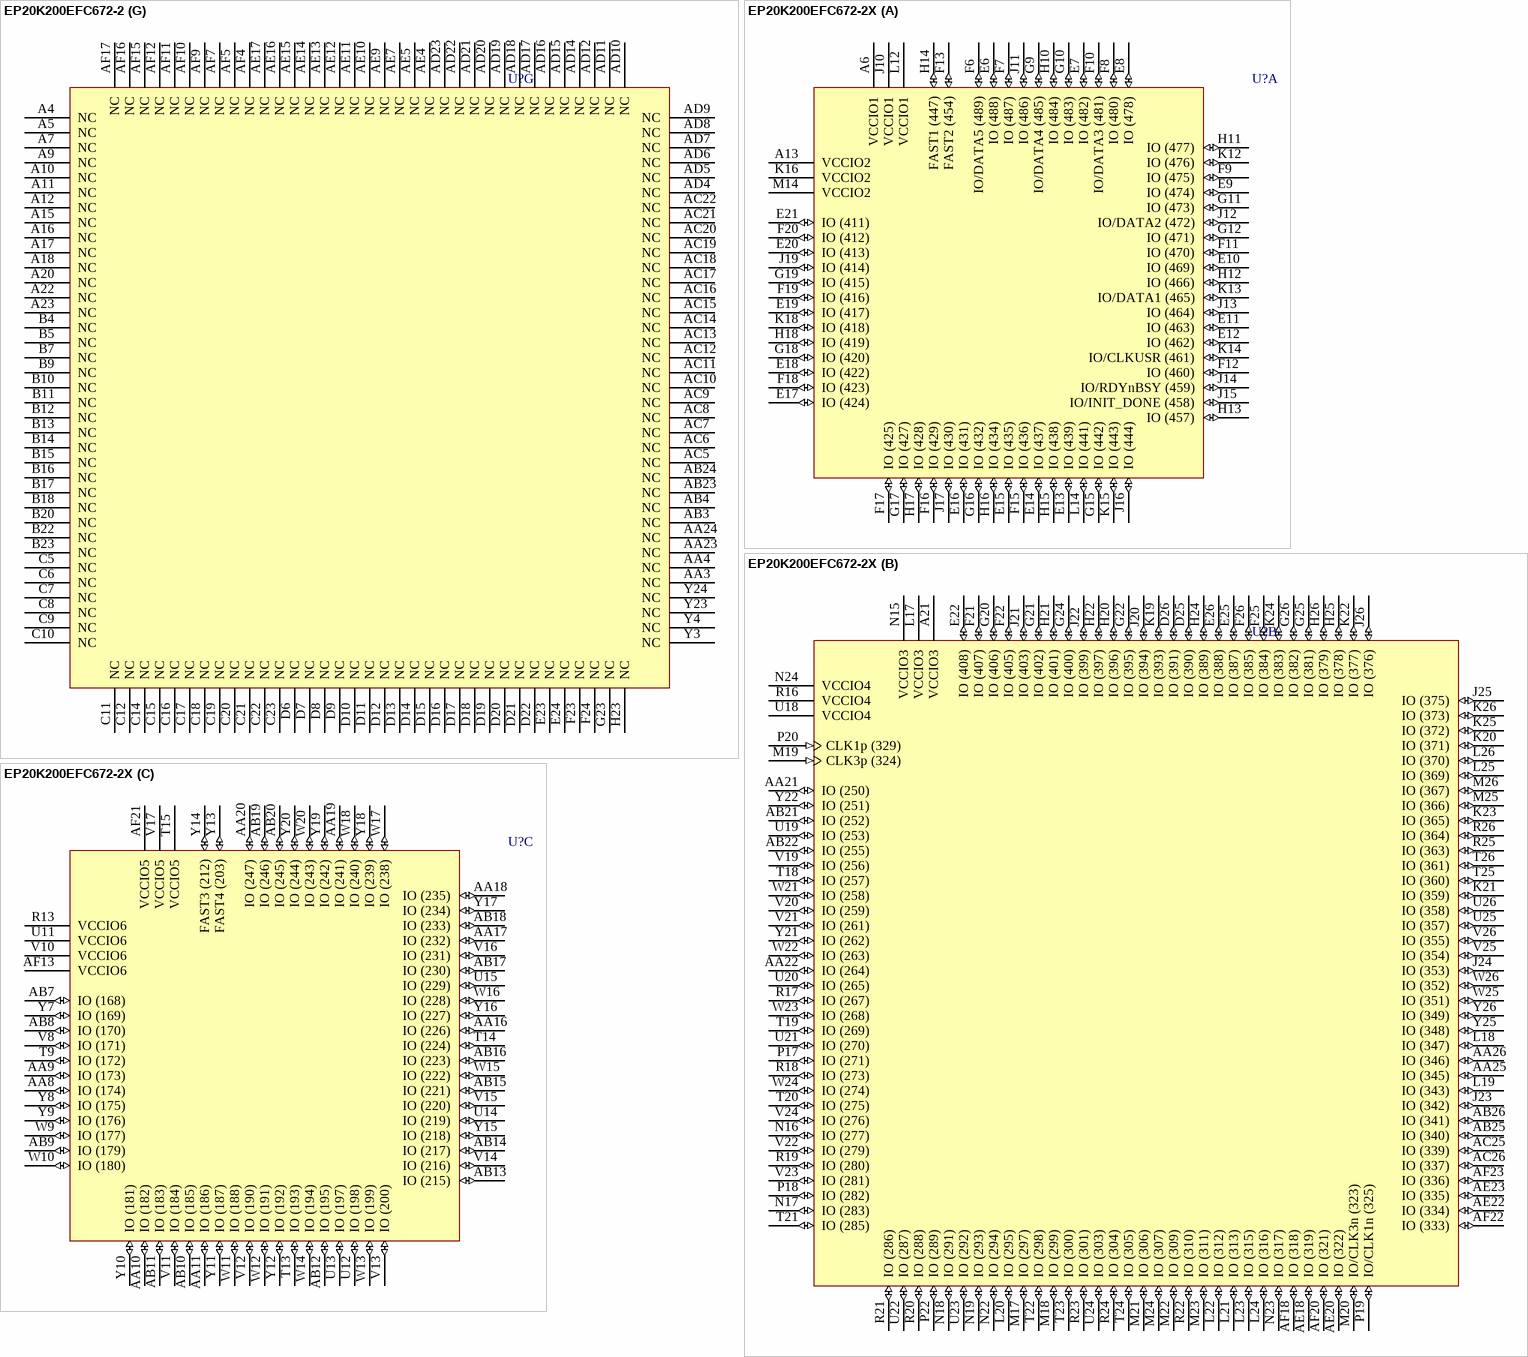
[diagram p196: symbols EP20K200EFC672-2 to EP20K200EFC672-2X]

## EP20K200EFC672-2
designator U?
APEX 20K200E PLD, 672-Pin FBGA, Commercial Grade, Speed Grade 2; Published: 17-Jul-2002; LatestRevisionDate: 13-Apr-2006; LatestRevisionNote: IPC-7351 Footprint Added.; DatasheetVersion: Mar-2004; PackageVersion: ver15.4, Dec-2008; PackageReference: FBGA672; Publisher: Altium Limited; PackageDescription: 672-Ball FineLine Ball Grid Array (FBGA672) - Flip Chip; Code_JEDEC: MS-034-AAL-1; ComponentLink1Description: Manufacturer Link; ComponentLink1URL: http://www.altera.com/products/devices/apex/apx-index.html; ComponentLink2Description: Datasheet; ComponentLink2URL: http://www.altera.com/literature/ds/apex.pdf
footprint FBGA672 (BGA, 672-Leads, Body 27x27mm, Pitch 1mm)
3D model EP20K200E-FBGA672 (672-Ball FineLine Ball Grid Array (FBGA672) - Flip Chip)
part A pins: A6 VCCIO1 (power), A13 VCCIO2 (power), E6 IO (488) (io), E7 IO (482) (io), E8 IO (478) (io), E9 IO (474) (io), E10 IO (469) (io), E11 IO (463) (io), E12 IO (462) (io), E13 IO (439) (io), E14 IO (437) (io), E15 IO (435) (io), E16 IO (431) (io), E17 IO (424) (io), E18 IO (422) (io), E19 IO (417) (io), E20 IO (413) (io), E21 IO (411) (io), F6 IO/DATA5 (489) (io), F7 IO (487) (io), F8 IO (480) (io), F9 IO (475) (io), F10 IO/DATA3 (481) (io), F11 IO (470) (io), F12 IO (460) (io), F13 FAST2 (454) (io), F15 IO (436) (io), F16 IO (429) (io), F17 IO (425) (io), F18 IO (423) (io), F19 IO (416) (io), F20 IO (412) (io), G9 IO/DATA4 (485) (io), G10 IO (483) (io), G11 IO (473) (io), G12 IO (471) (io), G15 IO (442) (io), G16 IO (432) (io), G17 IO (427) (io), G18 IO (420) (io), G19 IO (415) (io), H10 IO (484) (io), H11 IO (477) (io), H12 IO (466) (io), H13 IO (457) (io), H14 FAST1 (447) (io), H15 IO (438) (io), H16 IO (434) (io), H17 IO (428) (io), H18 IO (419) (io), J10 VCCIO1 (power), J11 IO (486) (io), J12 IO/DATA2 (472) (io), J13 IO (464) (io), J14 IO/RDYnBSY (459) (io), J15 IO/INIT_DONE (458) (io), J16 IO (444) (io), J17 IO (430) (io), J19 IO (414) (io), K12 IO (476) (io), K13 IO/DATA1 (465) (io), K14 IO/CLKUSR (461) (io), K15 IO (443) (io), K16 VCCIO2 (power), K18 IO (418) (io), L12 VCCIO1 (power), L14 IO (441) (io), M14 VCCIO2 (power)
part B pins: A21 VCCIO3 (power), AA21 IO (250) (io), AA22 IO (264) (io), AA25 IO (345) (io), AA26 IO (346) (io), AB21 IO (252) (io), AB22 IO (255) (io), AB25 IO (340) (io), AB26 IO (341) (io), AC25 IO (339) (io), AC26 IO (337) (io), AE18 IO (319) (io), AE20 IO (322) (io), AE22 IO (334) (io), AE23 IO (335) (io), AF18 IO (318) (io), AF20 IO (321) (io), AF22 IO (333) (io), AF23 IO (336) (io), D25 IO (390) (io), D26 IO (391) (io), E22 IO (408) (io), E25 IO (387) (io), E26 IO (388) (io), F21 IO (407) (io), F22 IO (405) (io), F25 IO (384) (io), F26 IO (385) (io), G20 IO (406) (io), G21 IO (402) (io), G22 IO (395) (io), G24 IO (400) (io), G25 IO (381) (io), G26 IO (382) (io), H20 IO (396) (io), H21 IO (401) (io), H22 IO (397) (io), H24 IO (389) (io), H25 IO (378) (io), H26 IO (379) (io), J20 IO (394) (io), J21 IO (403) (io), J22 IO (399) (io), J23 IO (342) (io), J24 IO (353) (io), J25 IO (375) (io), J26 IO (376) (io), K19 IO (393) (io), K20 IO (371) (io), K21 IO (359) (io), K22 IO (377) (io), K23 IO (365) (io), K24 IO (383) (io), K25 IO (372) (io), K26 IO (373) (io), L17 VCCIO3 (power), L18 IO (347) (io), L19 IO (343) (io), L20 IO (295) (io), L21 IO (313) (io), L22 IO (312) (io), L23 IO (315) (io), L24 IO (316) (io), L25 IO (369) (io), L26 IO (370) (io), M17 IO (297) (io), M18 IO (299) (io), M19 CLK3p (324) (in), M20 IO/CLK3n (323) (io), M21 IO (306) (io), M22 IO (309) (io), M23 IO (311) (io), M24 IO (307) (io), M25 IO (366) (io), M26 IO (367) (io), N15 VCCIO3 (power), N16 IO (277) (io), N17 IO (283) (io), N18 IO (291) (io), N19 IO (293) (io), N22 IO (294) (io), N23 IO (317) (io), N24 VCCIO4 (power), P17 IO (271) (io), P18 IO (282) (io), P19 IO/CLK1n (325) (io), P20 CLK1p (329) (in), P22 IO (289) (io), R16 VCCIO4 (power), R17 IO (267) (io), R18 IO (273) (io), R19 IO (280) (io), R20 IO (288) (io), R21 IO (286) (io), R22 IO (310) (io), R23 IO (301) (io), R24 IO (304) (io), R25 IO (363) (io), R26 IO (364) (io), T18 IO (257) (io), T19 IO (269) (io), T20 IO (275) (io), T21 IO (285) (io), T22 IO (298) (io), T23 IO (300) (io), T24 IO (305) (io), T25 IO (360) (io), T26 IO (361) (io), U18 VCCIO4 (power), U19 IO (253) (io), U20 IO (265) (io), U21 IO (270) (io), U22 IO (287) (io), U23 IO (292) (io), U24 IO (303) (io), U25 IO (357) (io), U26 IO (358) (io), V19 IO (256) (io), V20 IO (259) (io), V21 IO (261) (io), V22 IO (279) (io), V23 IO (281) (io), V24 IO (276) (io), V25 IO (354) (io), V26 IO (355) (io), W21 IO (258) (io), W22 IO (263) (io), W23 IO (268) (io), W24 IO (274) (io), W25 IO (351) (io), W26 IO (352) (io), Y21 IO (262) (io), Y22 IO (251) (io), Y25 IO (348) (io), Y26 IO (349) (io)
part C pins: AA8 IO (174) (io), AA9 IO (173) (io), AA10 IO (182) (io), AA11 IO (186) (io), AA16 IO (226) (io), AA17 IO (232) (io), AA18 IO (235) (io), AA19 IO (241) (io), AA20 IO (247) (io), AB7 IO (168) (io), AB8 IO (170) (io), AB9 IO (179) (io), AB10 IO (185) (io), AB11 IO (183) (io), AB12 IO (195) (io), AB13 IO (215) (io), AB14 IO (217) (io), AB15 IO (221) (io), AB16 IO (223) (io), AB17 IO (230) (io), AB18 IO (233) (io), AB19 IO (246) (io), AB20 IO (245) (io), AF13 VCCIO6 (power), AF21 VCCIO5 (power), R13 VCCIO6 (power), T9 IO (172) (io), T13 IO (193) (io), T14 IO (224) (io), T15 VCCIO5 (power), U11 VCCIO6 (power), U12 IO (198) (io), U13 IO (197) (io), U14 IO (219) (io), U15 IO (229) (io), V8 IO (171) (io), V10 VCCIO6 (power), V11 IO (184) (io), V12 IO (190) (io), V13 IO (200) (io), V14 IO (216) (io), V15 IO (220) (io), V16 IO (231) (io), V17 VCCIO5 (power), W9 IO (177) (io), W10 IO (180) (io), W11 IO (188) (io), W12 IO (191) (io), W13 IO (199) (io), W14 IO (194) (io), W15 IO (222) (io), W16 IO (228) (io), W17 IO (238) (io), W18 IO (240) (io), W20 IO (243) (io), Y7 IO (169) (io), Y8 IO (175) (io), Y9 IO (176) (io), Y10 IO (181) (io), Y11 IO (187) (io), Y12 IO (192) (io), Y13 FAST4 (203) (io), Y14 FAST3 (212) (io), Y15 IO (218) (io), Y16 IO (227) (io), Y17 IO (234) (io), Y18 IO (239) (io), Y19 IO (242) (io), Y20 IO (244) (io)
part D pins: AA1 IO (141) (io), AA2 IO (142) (io), AA5 IO (160) (io), AA6 IO (163) (io), AA7 IO (164) (io), AB1 IO (144) (io), AB2 IO (145) (io), AB5 IO (159) (io), AB6 IO (165) (io), AC1 IO (147) (io), AC2 IO (148) (io), AF6 VCCIO7 (power), C4 IO (14) (io), D1 IO (96) (io), D2 IO (97) (io), D5 IO (8) (io), E1 IO (99) (io), E2 IO (100) (io), E3 IO (2) (io), E4 IO (6) (io), E5 IO (1) (io), F1 IO (102) (io), F2 IO (103) (io), F3 IO (7) (io), F4 IO (4) (io), F5 IO (3) (io), G1 IO (105) (io), G2 IO (106) (io), G3 IO (10) (io), G4 IO (13) (io), G5 IO (9) (io), G6 IO (15) (io), G7 IO (18) (io), G8 IO (12) (io), H1 IO (108) (io), H2 IO (109) (io), H3 IO (27) (io), H4 IO (20) (io), H5 IO (16) (io), H6 IO (21) (io), H7 IO (19) (io), H9 IO (25) (io), J1 IO (111) (io), J2 IO (112) (io), J3 IO (36) (io), J4 IO (30) (io), J5 IO (24) (io), J6 IO (62) (io), J7 IO (34) (io), J8 IO (44) (io), K1 IO (114) (io), K2 IO (115) (io), K3 IO (28) (io), K4 IO (40) (io), K5 IO (31) (io), K6 IO (39) (io), K7 IO (22) (io), K8 IO (37) (io), K9 VCCIO8 (power), L1 IO (117) (io), L2 IO (118) (io), L3 IO (55) (io), L4 IO (54) (io), L5 IO (51) (io), L6 IO (33) (io), L7 IO (46) (io), L8 IO/DATA6 (26) (io), L9 IO (48) (io), M1 IO (120) (io), M2 IO (121) (io), M3 IO (60) (io), M4 IO (70) (io), M5 IO (58) (io), M6 IO (45) (io), M7 IO (49) (io), M8 IO (43) (io), M9 IO/nCS (56) (io), M10 IO/DATA7 (32) (io), M11 VCCIO8 (power), N3 VCCIO8 (power), N5 IO (42) (io), N8 CLK2p (82) (in), N9 IO/CLK2n (78) (io), N10 IO/nRS (50) (io), P4 IO (61) (io), P5 IO (64) (io), P8 IO (52) (io), P9 IO/nWS (38) (io), P12 VCCIO7 (power), R1 IO (123) (io), R2 IO (124) (io), R3 IO (63) (io), R4 IO (57) (io), R5 IO (104) (io), R6 CLK4p (77) (in), R7 IO/CLK4n (76) (io), R8 IO/DEV_OE (90) (io), R9 IO/DEV_CLRn (71) (io), T1 IO (126) (io), T2 IO (127) (io), T3 IO (122) (io), T4 IO (134) (io), T5 IO (116) (io), T6 IO/CS (69) (io), T8 IO/CLKLK_FB2n (74) (io), T10 VCCIO7 (power), U1 IO (129) (io), U2 IO (130) (io), U3 IO (150) (io), U4 IO (140) (io), U5 IO (128) (io), U6 IO/LOCK2 (98) (io), U7 IO/CLKLK_OUT2n (94) (io), V1 IO (132) (io), V2 IO (133) (io), V3 IO (151) (io), V4 IO (156) (io), V5 IO (154) (io), W1 IO (135) (io), W2 IO (136) (io), W3 IO (157) (io), W4 IO (146) (io), W5 IO (152) (io), W6 IO (153) (io), W7 IO/LOCK4 (110) (io), Y1 IO (138) (io), Y2 IO (139) (io), Y5 IO (158) (io), Y6 IO (162) (io)
part E pins: AA12 CONF_DONE (201) (io), AA13 nSTATUS (202) (io), AA14 TCK (213) (in), AA15 TMS (214) (in), F14 TRST (445) (in), G13 TDO (455) (out), G14 nCEO (446) (out), N6 DATA0 (80) (in), N7 DCLK (81) (in), N20 MSEL1 (330) (in), N21 MSEL0 (331) (in), P6 nCE (83) (in), P7 TDI (84) (in), P16 CLKLK_ENA (328) (in), P21 nCONFIG (327) (in), T7 CLKLK_OUT2p (93) (out), U8 CLKLK_FB2p (75) (in)
part F pins: A2 GND (power), A3 VCCINT (power), A8 GND (power), A14 GND (power), A19 GND (power), A24 VCCINT (power), A25 GND (power), AC3 VCCINT (power), AC4 GND (power), AC23 GND (power), AC24 VCCINT (power), AD1 VCCINT (power), AD2 VCCINT (power), AD3 GND (power), AD13 GND (power), AD24 GND (power), AD25 VCCINT (power), AD26 VCCINT (power), AE1 GND (power), AE2 GND (power), AE3 VCCINT (power), AE6 GND (power), AE8 VCCINT (power), AE19 VCCINT (power), AE21 GND (power), AE24 VCCINT (power), AE25 GND (power), AE26 GND (power), AF2 GND (power), AF3 VCCINT (power), AF8 GND (power), AF14 GND (power), AF19 GND (power), AF24 VCCINT (power), AF25 GND (power), B1 GND (power), B2 GND (power), B3 VCCINT (power), B6 GND (power), B8 VCCINT (power), B19 VCCINT (power), B21 GND (power), B24 VCCINT (power), B25 GND (power), B26 GND (power), C1 VCCINT (power), C2 VCCINT (power), C3 GND (power), C13 GND (power), C24 GND (power), C25 VCCINT (power), C26 VCCINT (power), D3 VCCINT (power), D4 GND (power), D23 GND (power), D24 VCCINT (power), H8 GND (power), H19 GND (power), J9 GND (power), J18 GND (power), K10 GND (power), K11 VCCINT (power), K17 GND (power), L10 VCCINT (power), L11 GND (power), L13 GND (power), L15 VCCINT (power), L16 GND (power), M12 GND (power), M13 VCCINT (power), M15 GND (power), M16 VCCINT (power), N1 GND (power), N2 VCCINT (power), N4 GND (power), N11 VCC_CKLK2 (89) (power), N12 VCCINT (power), N13 GND (power), N14 GND (power), N25 GND (power), N26 GND (power), P1 GND (power), P2 GND (power), P3 GND (power), P10 VCC_CKLK4 (66) (power), P11 GND_CKLK2 (86/87) (power), P13 GND (power), P14 GND (power), P15 VCCINT (power), P23 GND (power), P24 VCCINT (power), P25 VCCINT (power), P26 GND (power), R10 GND_CKLK4 (67/68) (power), R11 VCCINT (power), R12 GND (power), R14 VCCINT (power), R15 GND (power), T11 GND (power), T12 VCCINT (power), T16 GND (power), T17 VCCINT (power), U9 VCCINT (power), U10 GND (power), U16 VCCINT (power), U17 GND (power), V6 GND_CKOUT2 (92) (power), V7 VCC_CKOUT2 (91) (power), V9 GND (power), V18 GND (power), W8 GND (power), W19 GND (power)
part G pins: A4 NC, A5 NC, A7 NC, A9 NC, A10 NC, A11 NC, A12 NC, A15 NC, A16 NC, A17 NC, A18 NC, A20 NC, A22 NC, A23 NC, AA3 NC, AA4 NC, AA23 NC, AA24 NC, AB3 NC, AB4 NC, AB23 NC, AB24 NC, AC5 NC, AC6 NC, AC7 NC, AC8 NC, AC9 NC, AC10 NC, AC11 NC, AC12 NC, AC13 NC, AC14 NC, AC15 NC, AC16 NC, AC17 NC, AC18 NC, AC19 NC, AC20 NC, AC21 NC, AC22 NC, AD4 NC, AD5 NC, AD6 NC, AD7 NC, AD8 NC, AD9 NC, AD10 NC, AD11 NC, AD12 NC, AD14 NC, AD15 NC, AD16 NC, AD17 NC, AD18 NC, AD19 NC, AD20 NC, AD21 NC, AD22 NC, AD23 NC, AE4 NC, AE5 NC, AE7 NC, AE9 NC, AE10 NC, AE11 NC, AE12 NC, AE13 NC, AE14 NC, AE15 NC, AE16 NC, AE17 NC, AF4 NC, AF5 NC, AF7 NC, AF9 NC, AF10 NC, AF11 NC, AF12 NC, AF15 NC, AF16 NC, AF17 NC, B4 NC, B5 NC, B7 NC, B9 NC, B10 NC, B11 NC, B12 NC, B13 NC, B14 NC, B15 NC, B16 NC, B17 NC, B18 NC, B20 NC, B22 NC, B23 NC, C5 NC, C6 NC, C7 NC, C8 NC, C9 NC, C10 NC, C11 NC, C12 NC, C14 NC, C15 NC, C16 NC, C17 NC, C18 NC, C19 NC, C20 NC, C21 NC, C22 NC, C23 NC, D6 NC, D7 NC, D8 NC, D9 NC, D10 NC, D11 NC, D12 NC, D13 NC, D14 NC, D15 NC, D16 NC, D17 NC, D18 NC, D19 NC, D20 NC, D21 NC, D22 NC, E23 NC, E24 NC, F23 NC, F24 NC, G23 NC, H23 NC, Y3 NC, Y4 NC, Y23 NC, Y24 NC

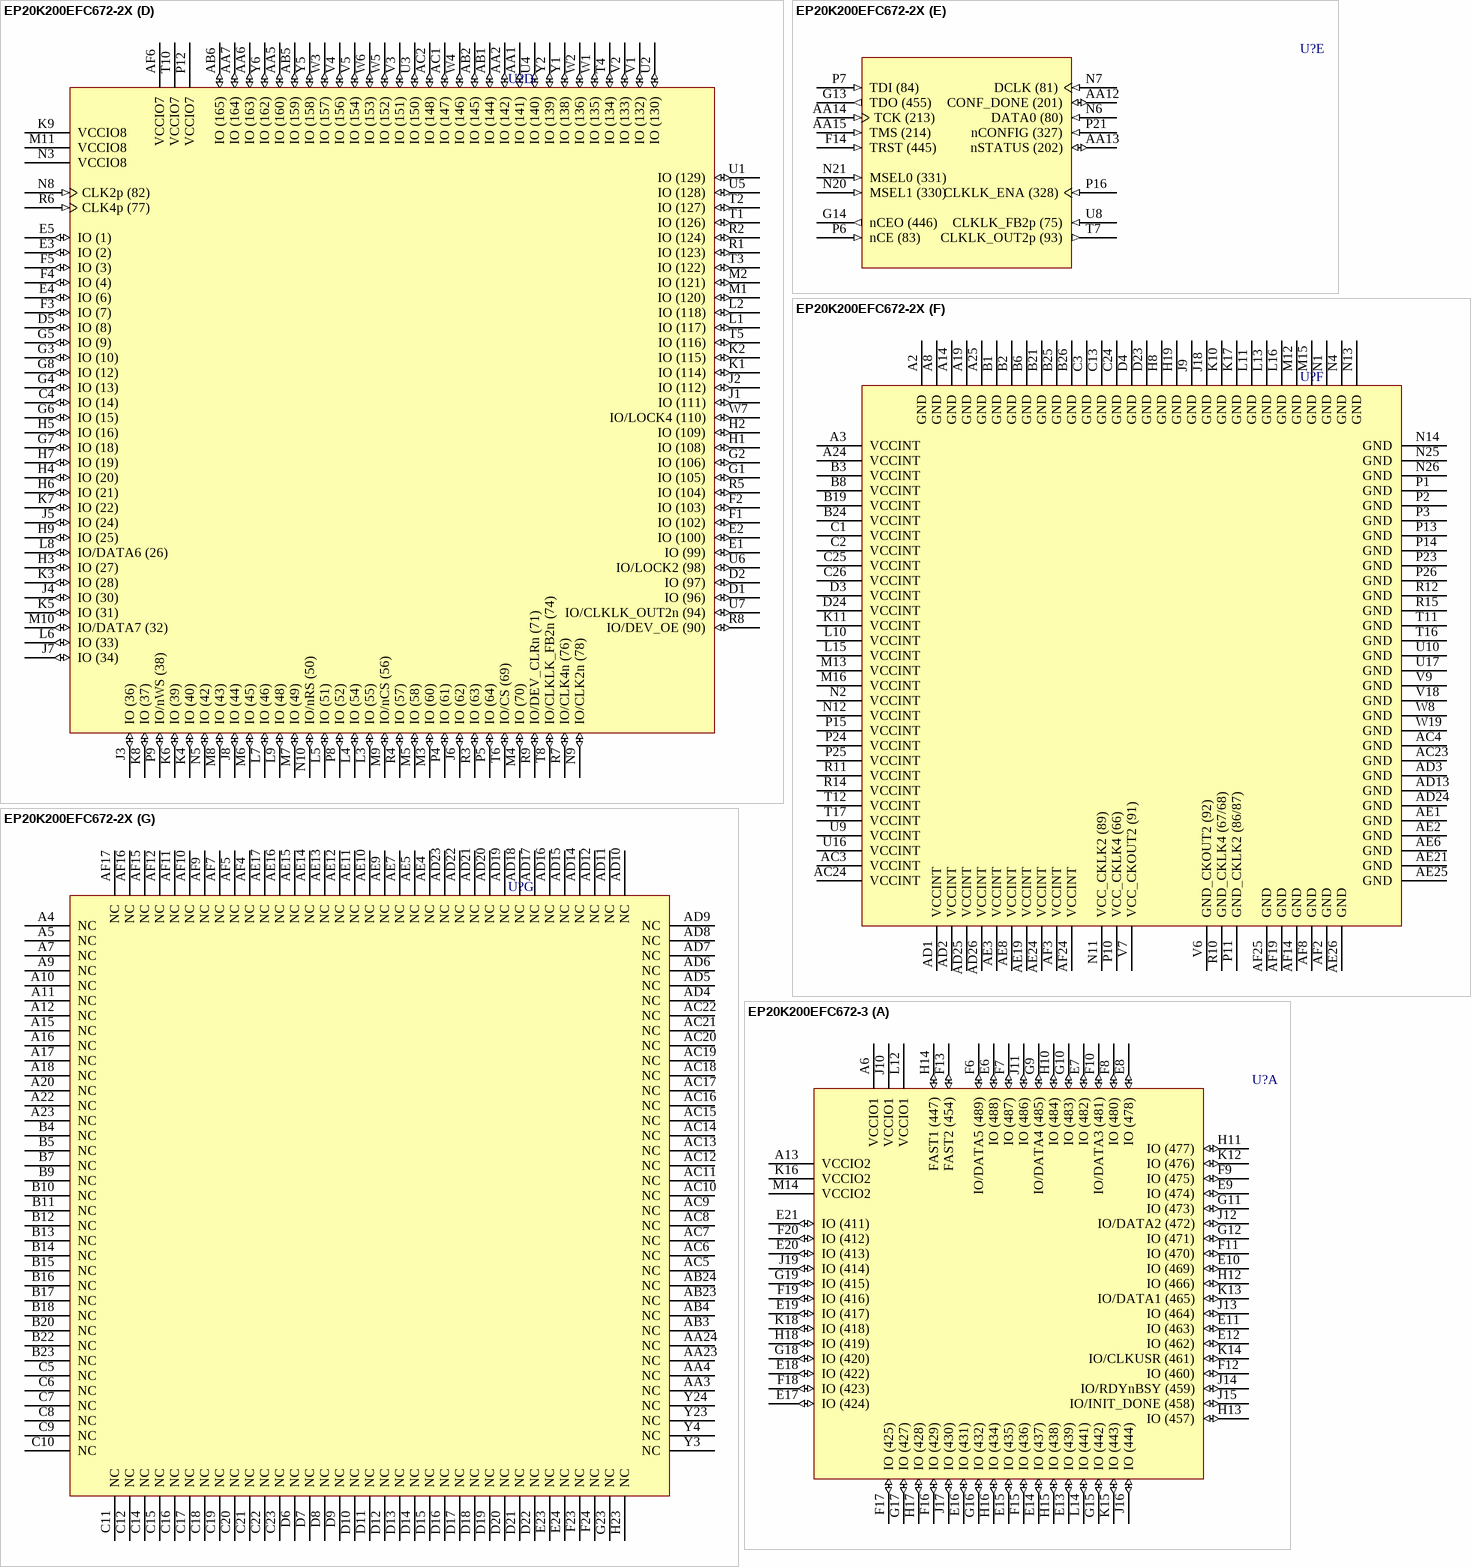
[diagram p197: symbols EP20K200EFC672-2X to EP20K200EFC672-3]

## EP20K200EFC672-2X
designator U?
APEX 20K200E PLD with PLLs and LVDS, 672-Pin FBGA, Commercial Grade, Speed Grade 2; Published: 17-Jul-2002; LatestRevisionDate: 13-Apr-2006; LatestRevisionNote: IPC-7351 Footprint Added.; DatasheetVersion: Mar-2004; PackageVersion: ver15.4, Dec-2008; PackageReference: FBGA672; Publisher: Altium Limited; PackageDescription: 672-Ball FineLine Ball Grid Array (FBGA672) - Flip Chip; Code_JEDEC: MS-034-AAL-1; ComponentLink1Description: Manufacturer Link; ComponentLink1URL: http://www.altera.com/products/devices/apex/apx-index.html; ComponentLink2Description: Datasheet; ComponentLink2URL: http://www.altera.com/literature/ds/apex.pdf
footprint FBGA672 (BGA, 672-Leads, Body 27x27mm, Pitch 1mm)
3D model EP20K200E-FBGA672 (672-Ball FineLine Ball Grid Array (FBGA672) - Flip Chip)
part A pins: A6 VCCIO1 (power), A13 VCCIO2 (power), E6 IO (488) (io), E7 IO (482) (io), E8 IO (478) (io), E9 IO (474) (io), E10 IO (469) (io), E11 IO (463) (io), E12 IO (462) (io), E13 IO (439) (io), E14 IO (437) (io), E15 IO (435) (io), E16 IO (431) (io), E17 IO (424) (io), E18 IO (422) (io), E19 IO (417) (io), E20 IO (413) (io), E21 IO (411) (io), F6 IO/DATA5 (489) (io), F7 IO (487) (io), F8 IO (480) (io), F9 IO (475) (io), F10 IO/DATA3 (481) (io), F11 IO (470) (io), F12 IO (460) (io), F13 FAST2 (454) (io), F15 IO (436) (io), F16 IO (429) (io), F17 IO (425) (io), F18 IO (423) (io), F19 IO (416) (io), F20 IO (412) (io), G9 IO/DATA4 (485) (io), G10 IO (483) (io), G11 IO (473) (io), G12 IO (471) (io), G15 IO (442) (io), G16 IO (432) (io), G17 IO (427) (io), G18 IO (420) (io), G19 IO (415) (io), H10 IO (484) (io), H11 IO (477) (io), H12 IO (466) (io), H13 IO (457) (io), H14 FAST1 (447) (io), H15 IO (438) (io), H16 IO (434) (io), H17 IO (428) (io), H18 IO (419) (io), J10 VCCIO1 (power), J11 IO (486) (io), J12 IO/DATA2 (472) (io), J13 IO (464) (io), J14 IO/RDYnBSY (459) (io), J15 IO/INIT_DONE (458) (io), J16 IO (444) (io), J17 IO (430) (io), J19 IO (414) (io), K12 IO (476) (io), K13 IO/DATA1 (465) (io), K14 IO/CLKUSR (461) (io), K15 IO (443) (io), K16 VCCIO2 (power), K18 IO (418) (io), L12 VCCIO1 (power), L14 IO (441) (io), M14 VCCIO2 (power)
part B pins: A21 VCCIO3 (power), AA21 IO (250) (io), AA22 IO (264) (io), AA25 IO (345) (io), AA26 IO (346) (io), AB21 IO (252) (io), AB22 IO (255) (io), AB25 IO (340) (io), AB26 IO (341) (io), AC25 IO (339) (io), AC26 IO (337) (io), AE18 IO (319) (io), AE20 IO (322) (io), AE22 IO (334) (io), AE23 IO (335) (io), AF18 IO (318) (io), AF20 IO (321) (io), AF22 IO (333) (io), AF23 IO (336) (io), D25 IO (390) (io), D26 IO (391) (io), E22 IO (408) (io), E25 IO (387) (io), E26 IO (388) (io), F21 IO (407) (io), F22 IO (405) (io), F25 IO (384) (io), F26 IO (385) (io), G20 IO (406) (io), G21 IO (402) (io), G22 IO (395) (io), G24 IO (400) (io), G25 IO (381) (io), G26 IO (382) (io), H20 IO (396) (io), H21 IO (401) (io), H22 IO (397) (io), H24 IO (389) (io), H25 IO (378) (io), H26 IO (379) (io), J20 IO (394) (io), J21 IO (403) (io), J22 IO (399) (io), J23 IO (342) (io), J24 IO (353) (io), J25 IO (375) (io), J26 IO (376) (io), K19 IO (393) (io), K20 IO (371) (io), K21 IO (359) (io), K22 IO (377) (io), K23 IO (365) (io), K24 IO (383) (io), K25 IO (372) (io), K26 IO (373) (io), L17 VCCIO3 (power), L18 IO (347) (io), L19 IO (343) (io), L20 IO (295) (io), L21 IO (313) (io), L22 IO (312) (io), L23 IO (315) (io), L24 IO (316) (io), L25 IO (369) (io), L26 IO (370) (io), M17 IO (297) (io), M18 IO (299) (io), M19 CLK3p (324) (in), M20 IO/CLK3n (323) (io), M21 IO (306) (io), M22 IO (309) (io), M23 IO (311) (io), M24 IO (307) (io), M25 IO (366) (io), M26 IO (367) (io), N15 VCCIO3 (power), N16 IO (277) (io), N17 IO (283) (io), N18 IO (291) (io), N19 IO (293) (io), N22 IO (294) (io), N23 IO (317) (io), N24 VCCIO4 (power), P17 IO (271) (io), P18 IO (282) (io), P19 IO/CLK1n (325) (io), P20 CLK1p (329) (in), P22 IO (289) (io), R16 VCCIO4 (power), R17 IO (267) (io), R18 IO (273) (io), R19 IO (280) (io), R20 IO (288) (io), R21 IO (286) (io), R22 IO (310) (io), R23 IO (301) (io), R24 IO (304) (io), R25 IO (363) (io), R26 IO (364) (io), T18 IO (257) (io), T19 IO (269) (io), T20 IO (275) (io), T21 IO (285) (io), T22 IO (298) (io), T23 IO (300) (io), T24 IO (305) (io), T25 IO (360) (io), T26 IO (361) (io), U18 VCCIO4 (power), U19 IO (253) (io), U20 IO (265) (io), U21 IO (270) (io), U22 IO (287) (io), U23 IO (292) (io), U24 IO (303) (io), U25 IO (357) (io), U26 IO (358) (io), V19 IO (256) (io), V20 IO (259) (io), V21 IO (261) (io), V22 IO (279) (io), V23 IO (281) (io), V24 IO (276) (io), V25 IO (354) (io), V26 IO (355) (io), W21 IO (258) (io), W22 IO (263) (io), W23 IO (268) (io), W24 IO (274) (io), W25 IO (351) (io), W26 IO (352) (io), Y21 IO (262) (io), Y22 IO (251) (io), Y25 IO (348) (io), Y26 IO (349) (io)
part C pins: AA8 IO (174) (io), AA9 IO (173) (io), AA10 IO (182) (io), AA11 IO (186) (io), AA16 IO (226) (io), AA17 IO (232) (io), AA18 IO (235) (io), AA19 IO (241) (io), AA20 IO (247) (io), AB7 IO (168) (io), AB8 IO (170) (io), AB9 IO (179) (io), AB10 IO (185) (io), AB11 IO (183) (io), AB12 IO (195) (io), AB13 IO (215) (io), AB14 IO (217) (io), AB15 IO (221) (io), AB16 IO (223) (io), AB17 IO (230) (io), AB18 IO (233) (io), AB19 IO (246) (io), AB20 IO (245) (io), AF13 VCCIO6 (power), AF21 VCCIO5 (power), R13 VCCIO6 (power), T9 IO (172) (io), T13 IO (193) (io), T14 IO (224) (io), T15 VCCIO5 (power), U11 VCCIO6 (power), U12 IO (198) (io), U13 IO (197) (io), U14 IO (219) (io), U15 IO (229) (io), V8 IO (171) (io), V10 VCCIO6 (power), V11 IO (184) (io), V12 IO (190) (io), V13 IO (200) (io), V14 IO (216) (io), V15 IO (220) (io), V16 IO (231) (io), V17 VCCIO5 (power), W9 IO (177) (io), W10 IO (180) (io), W11 IO (188) (io), W12 IO (191) (io), W13 IO (199) (io), W14 IO (194) (io), W15 IO (222) (io), W16 IO (228) (io), W17 IO (238) (io), W18 IO (240) (io), W20 IO (243) (io), Y7 IO (169) (io), Y8 IO (175) (io), Y9 IO (176) (io), Y10 IO (181) (io), Y11 IO (187) (io), Y12 IO (192) (io), Y13 FAST4 (203) (io), Y14 FAST3 (212) (io), Y15 IO (218) (io), Y16 IO (227) (io), Y17 IO (234) (io), Y18 IO (239) (io), Y19 IO (242) (io), Y20 IO (244) (io)
part D pins: AA1 IO (141) (io), AA2 IO (142) (io), AA5 IO (160) (io), AA6 IO (163) (io), AA7 IO (164) (io), AB1 IO (144) (io), AB2 IO (145) (io), AB5 IO (159) (io), AB6 IO (165) (io), AC1 IO (147) (io), AC2 IO (148) (io), AF6 VCCIO7 (power), C4 IO (14) (io), D1 IO (96) (io), D2 IO (97) (io), D5 IO (8) (io), E1 IO (99) (io), E2 IO (100) (io), E3 IO (2) (io), E4 IO (6) (io), E5 IO (1) (io), F1 IO (102) (io), F2 IO (103) (io), F3 IO (7) (io), F4 IO (4) (io), F5 IO (3) (io), G1 IO (105) (io), G2 IO (106) (io), G3 IO (10) (io), G4 IO (13) (io), G5 IO (9) (io), G6 IO (15) (io), G7 IO (18) (io), G8 IO (12) (io), H1 IO (108) (io), H2 IO (109) (io), H3 IO (27) (io), H4 IO (20) (io), H5 IO (16) (io), H6 IO (21) (io), H7 IO (19) (io), H9 IO (25) (io), J1 IO (111) (io), J2 IO (112) (io), J3 IO (36) (io), J4 IO (30) (io), J5 IO (24) (io), J6 IO (62) (io), J7 IO (34) (io), J8 IO (44) (io), K1 IO (114) (io), K2 IO (115) (io), K3 IO (28) (io), K4 IO (40) (io), K5 IO (31) (io), K6 IO (39) (io), K7 IO (22) (io), K8 IO (37) (io), K9 VCCIO8 (power), L1 IO (117) (io), L2 IO (118) (io), L3 IO (55) (io), L4 IO (54) (io), L5 IO (51) (io), L6 IO (33) (io), L7 IO (46) (io), L8 IO/DATA6 (26) (io), L9 IO (48) (io), M1 IO (120) (io), M2 IO (121) (io), M3 IO (60) (io), M4 IO (70) (io), M5 IO (58) (io), M6 IO (45) (io), M7 IO (49) (io), M8 IO (43) (io), M9 IO/nCS (56) (io), M10 IO/DATA7 (32) (io), M11 VCCIO8 (power), N3 VCCIO8 (power), N5 IO (42) (io), N8 CLK2p (82) (in), N9 IO/CLK2n (78) (io), N10 IO/nRS (50) (io), P4 IO (61) (io), P5 IO (64) (io), P8 IO (52) (io), P9 IO/nWS (38) (io), P12 VCCIO7 (power), R1 IO (123) (io), R2 IO (124) (io), R3 IO (63) (io), R4 IO (57) (io), R5 IO (104) (io), R6 CLK4p (77) (in), R7 IO/CLK4n (76) (io), R8 IO/DEV_OE (90) (io), R9 IO/DEV_CLRn (71) (io), T1 IO (126) (io), T2 IO (127) (io), T3 IO (122) (io), T4 IO (134) (io), T5 IO (116) (io), T6 IO/CS (69) (io), T8 IO/CLKLK_FB2n (74) (io), T10 VCCIO7 (power), U1 IO (129) (io), U2 IO (130) (io), U3 IO (150) (io), U4 IO (140) (io), U5 IO (128) (io), U6 IO/LOCK2 (98) (io), U7 IO/CLKLK_OUT2n (94) (io), V1 IO (132) (io), V2 IO (133) (io), V3 IO (151) (io), V4 IO (156) (io), V5 IO (154) (io), W1 IO (135) (io), W2 IO (136) (io), W3 IO (157) (io), W4 IO (146) (io), W5 IO (152) (io), W6 IO (153) (io), W7 IO/LOCK4 (110) (io), Y1 IO (138) (io), Y2 IO (139) (io), Y5 IO (158) (io), Y6 IO (162) (io)
part E pins: AA12 CONF_DONE (201) (io), AA13 nSTATUS (202) (io), AA14 TCK (213) (in), AA15 TMS (214) (in), F14 TRST (445) (in), G13 TDO (455) (out), G14 nCEO (446) (out), N6 DATA0 (80) (in), N7 DCLK (81) (in), N20 MSEL1 (330) (in), N21 MSEL0 (331) (in), P6 nCE (83) (in), P7 TDI (84) (in), P16 CLKLK_ENA (328) (in), P21 nCONFIG (327) (in), T7 CLKLK_OUT2p (93) (out), U8 CLKLK_FB2p (75) (in)
part F pins: A2 GND (power), A3 VCCINT (power), A8 GND (power), A14 GND (power), A19 GND (power), A24 VCCINT (power), A25 GND (power), AC3 VCCINT (power), AC4 GND (power), AC23 GND (power), AC24 VCCINT (power), AD1 VCCINT (power), AD2 VCCINT (power), AD3 GND (power), AD13 GND (power), AD24 GND (power), AD25 VCCINT (power), AD26 VCCINT (power), AE1 GND (power), AE2 GND (power), AE3 VCCINT (power), AE6 GND (power), AE8 VCCINT (power), AE19 VCCINT (power), AE21 GND (power), AE24 VCCINT (power), AE25 GND (power), AE26 GND (power), AF2 GND (power), AF3 VCCINT (power), AF8 GND (power), AF14 GND (power), AF19 GND (power), AF24 VCCINT (power), AF25 GND (power), B1 GND (power), B2 GND (power), B3 VCCINT (power), B6 GND (power), B8 VCCINT (power), B19 VCCINT (power), B21 GND (power), B24 VCCINT (power), B25 GND (power), B26 GND (power), C1 VCCINT (power), C2 VCCINT (power), C3 GND (power), C13 GND (power), C24 GND (power), C25 VCCINT (power), C26 VCCINT (power), D3 VCCINT (power), D4 GND (power), D23 GND (power), D24 VCCINT (power), H8 GND (power), H19 GND (power), J9 GND (power), J18 GND (power), K10 GND (power), K11 VCCINT (power), K17 GND (power), L10 VCCINT (power), L11 GND (power), L13 GND (power), L15 VCCINT (power), L16 GND (power), M12 GND (power), M13 VCCINT (power), M15 GND (power), M16 VCCINT (power), N1 GND (power), N2 VCCINT (power), N4 GND (power), N11 VCC_CKLK2 (89) (power), N12 VCCINT (power), N13 GND (power), N14 GND (power), N25 GND (power), N26 GND (power), P1 GND (power), P2 GND (power), P3 GND (power), P10 VCC_CKLK4 (66) (power), P11 GND_CKLK2 (86/87) (power), P13 GND (power), P14 GND (power), P15 VCCINT (power), P23 GND (power), P24 VCCINT (power), P25 VCCINT (power), P26 GND (power), R10 GND_CKLK4 (67/68) (power), R11 VCCINT (power), R12 GND (power), R14 VCCINT (power), R15 GND (power), T11 GND (power), T12 VCCINT (power), T16 GND (power), T17 VCCINT (power), U9 VCCINT (power), U10 GND (power), U16 VCCINT (power), U17 GND (power), V6 GND_CKOUT2 (92) (power), V7 VCC_CKOUT2 (91) (power), V9 GND (power), V18 GND (power), W8 GND (power), W19 GND (power)
part G pins: A4 NC, A5 NC, A7 NC, A9 NC, A10 NC, A11 NC, A12 NC, A15 NC, A16 NC, A17 NC, A18 NC, A20 NC, A22 NC, A23 NC, AA3 NC, AA4 NC, AA23 NC, AA24 NC, AB3 NC, AB4 NC, AB23 NC, AB24 NC, AC5 NC, AC6 NC, AC7 NC, AC8 NC, AC9 NC, AC10 NC, AC11 NC, AC12 NC, AC13 NC, AC14 NC, AC15 NC, AC16 NC, AC17 NC, AC18 NC, AC19 NC, AC20 NC, AC21 NC, AC22 NC, AD4 NC, AD5 NC, AD6 NC, AD7 NC, AD8 NC, AD9 NC, AD10 NC, AD11 NC, AD12 NC, AD14 NC, AD15 NC, AD16 NC, AD17 NC, AD18 NC, AD19 NC, AD20 NC, AD21 NC, AD22 NC, AD23 NC, AE4 NC, AE5 NC, AE7 NC, AE9 NC, AE10 NC, AE11 NC, AE12 NC, AE13 NC, AE14 NC, AE15 NC, AE16 NC, AE17 NC, AF4 NC, AF5 NC, AF7 NC, AF9 NC, AF10 NC, AF11 NC, AF12 NC, AF15 NC, AF16 NC, AF17 NC, B4 NC, B5 NC, B7 NC, B9 NC, B10 NC, B11 NC, B12 NC, B13 NC, B14 NC, B15 NC, B16 NC, B17 NC, B18 NC, B20 NC, B22 NC, B23 NC, C5 NC, C6 NC, C7 NC, C8 NC, C9 NC, C10 NC, C11 NC, C12 NC, C14 NC, C15 NC, C16 NC, C17 NC, C18 NC, C19 NC, C20 NC, C21 NC, C22 NC, C23 NC, D6 NC, D7 NC, D8 NC, D9 NC, D10 NC, D11 NC, D12 NC, D13 NC, D14 NC, D15 NC, D16 NC, D17 NC, D18 NC, D19 NC, D20 NC, D21 NC, D22 NC, E23 NC, E24 NC, F23 NC, F24 NC, G23 NC, H23 NC, Y3 NC, Y4 NC, Y23 NC, Y24 NC

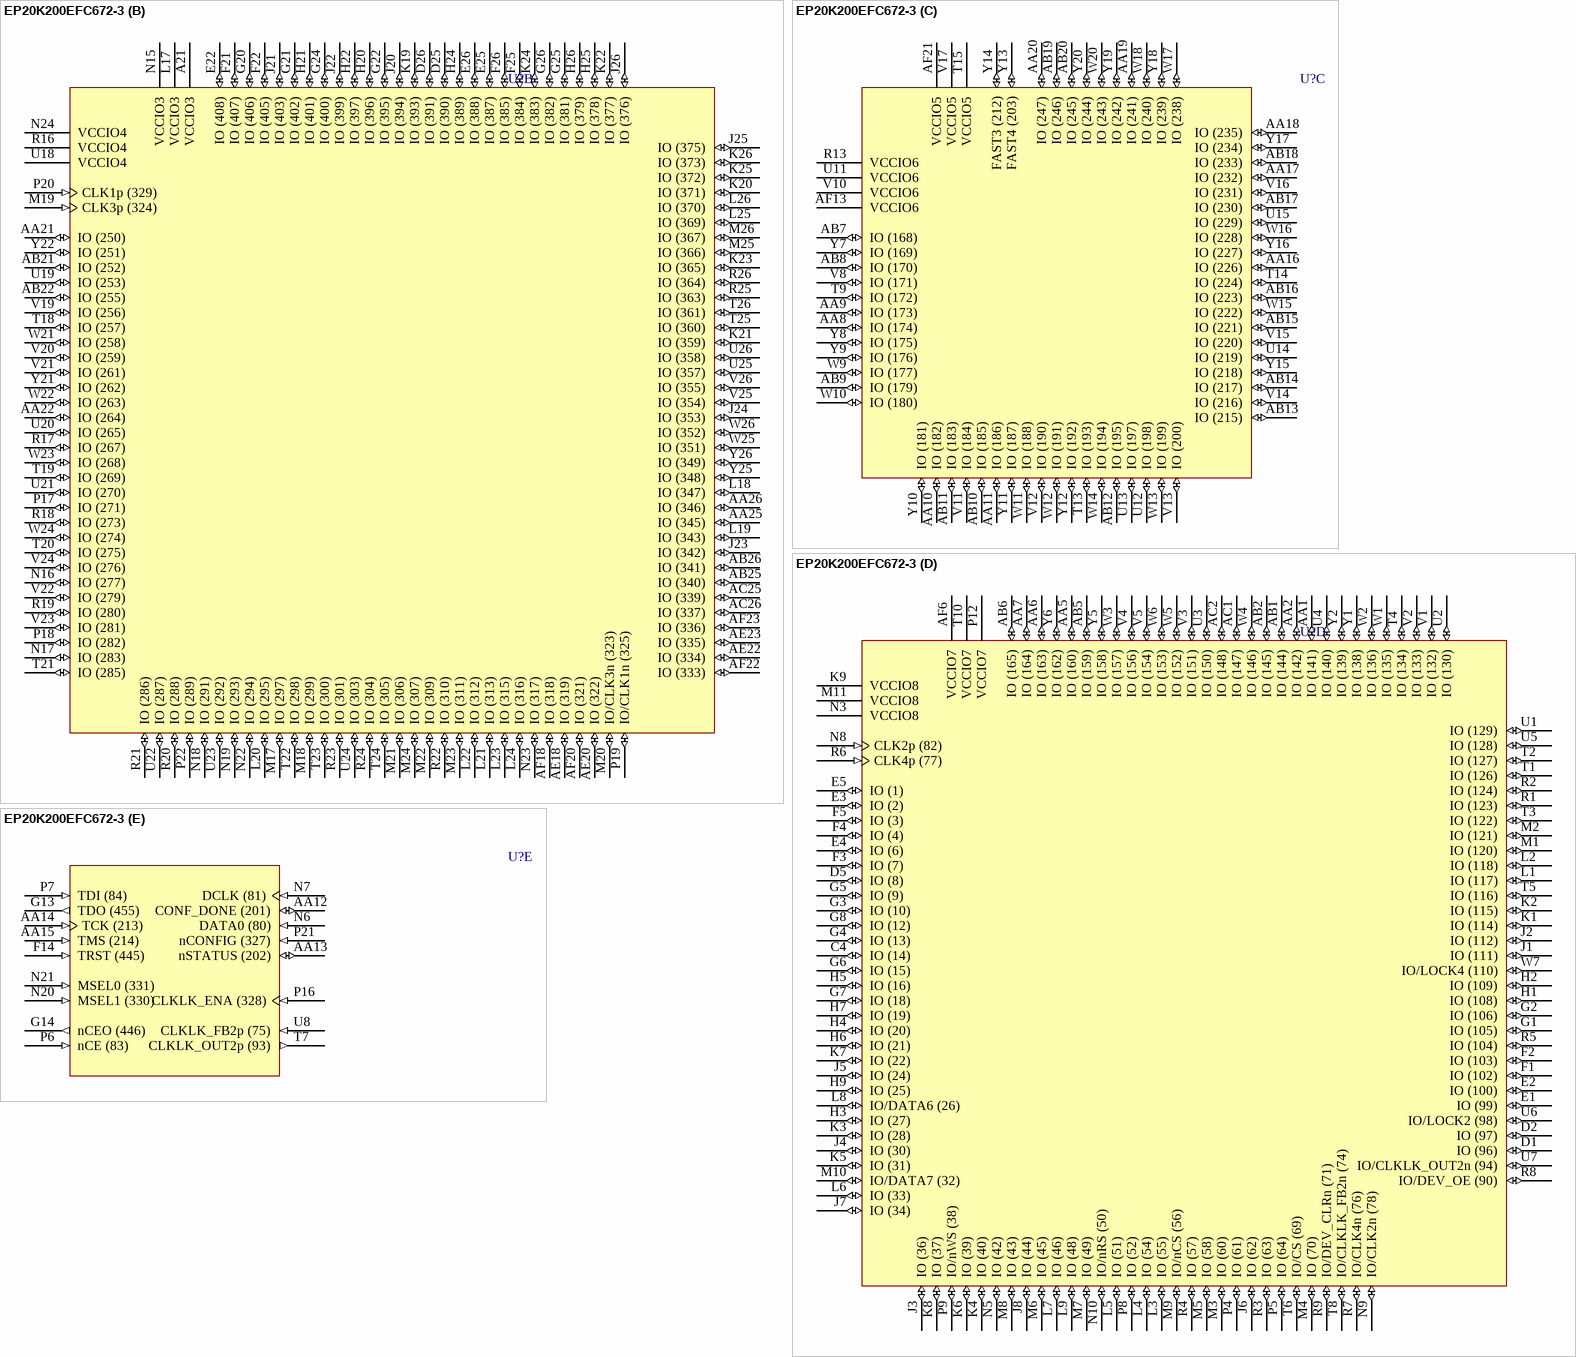
[diagram p198: symbol EP20K200EFC672-3]

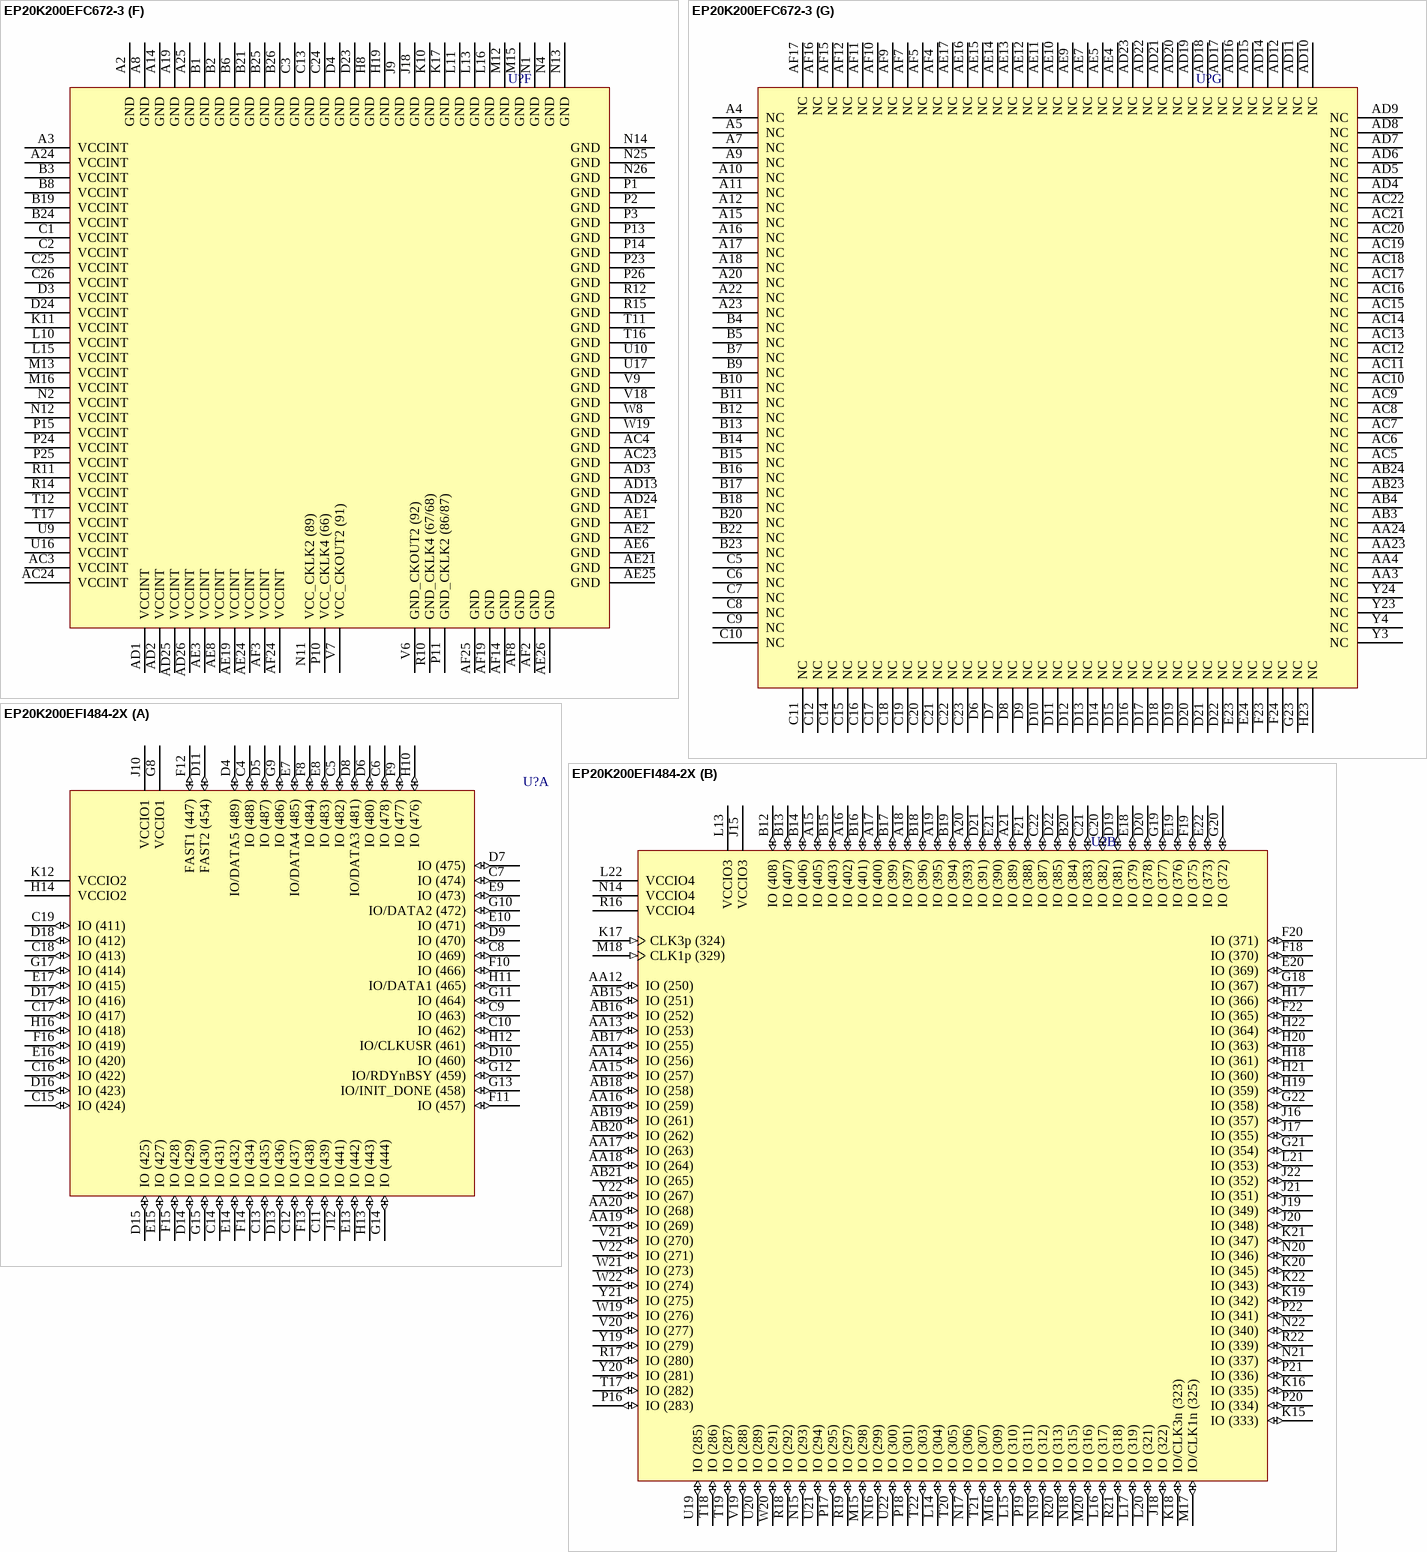
[diagram p199: symbols EP20K200EFC672-3 to EP20K200EFI484-2X]